# Altium schematic symbol library frznmn_sch.SchLib: 86 symbols (part 1 of 2)
Pins are listed as number, name and electrical type; pins without a type are passive.

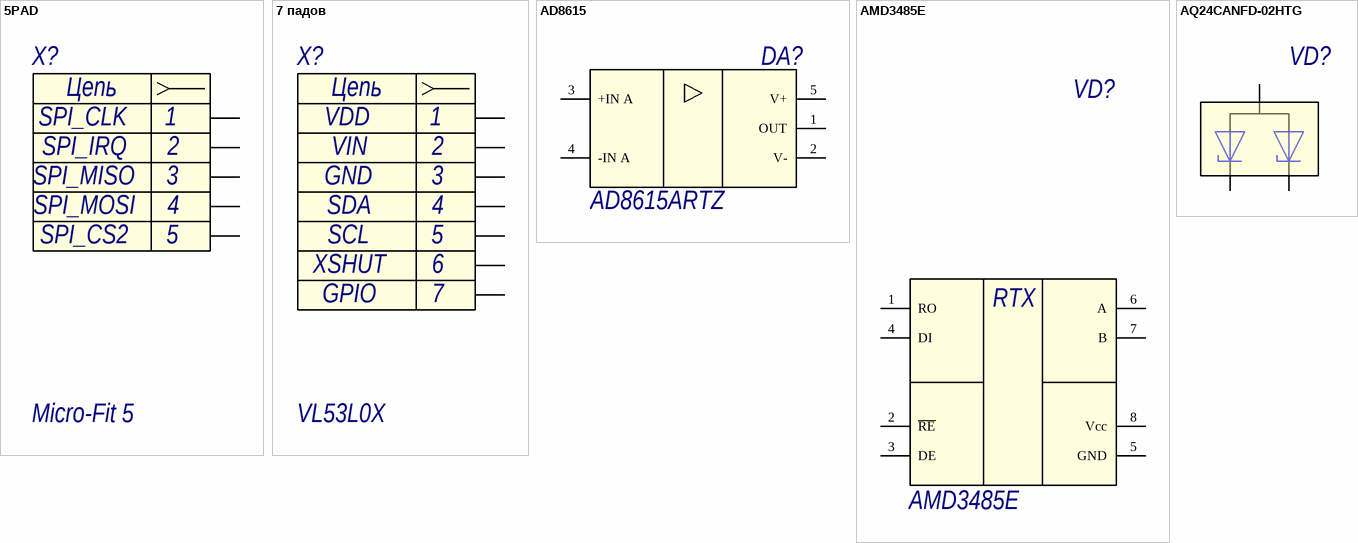
[diagram p0: symbols 5PAD to AQ24CANFD-02HTG]

## 5PAD
designator X?, comment Micro-Fit 5
Разъем - 5 конт. розетка; Contact_1: SPI_CLK; Contact_2: SPI_IRQ; Contact_3: SPI_MISO; Contact_4: SPI_MOSI; Contact_5: SPI_CS2; Name: Micro-Fit 5
footprint 5 PADS (WE-RJ45 LAN Transformer, THT)
pins: 1, 2, 3, 4, 5
text: Цепь

## 7 падов
designator X?, comment VL53L0X
разъем - 7 падов; Contact_1: VDD; Contact_2: VIN; Contact_3: GND; Contact_4: SDA; Contact_5: SCL; Contact_6: XSHUT; Contact_7: GPIO; Name: VL53L0X
footprint 7 pads (Разъем для коммутационной платы модуля датчиков)
pins: 1, 2, 3, 4, 5, 6, 7
text: Цепь

## AD8615
designator DA?, comment AD8615ARTZ
ОУ ,Rail-to-Rail; Noize ,En @1кГц: 10нВ/Гц^1/2; Slew rate: 12В/мкС; Gain Bandwidth,GBP: 24 МГц; Supply Voltage. Vs: 2,7...5,0В; PSRR: 90dB; T (°C) Ambient: -40...+125; Pk-to-Pk Noize ,Enp-p: 2,4 мкВ; Offset Voltage,Vos: 100мкВ; Input Voltage Range: 0...5В; Name: AD8615ARTZ
footprint SOT23-5
pins: 1 OUT, 2 V-, 3 +IN A, 4 -IN A, 5 V+

## AMD3485E
designator VD?
RS-485/UART; Manufacturer: Texas Instruments; Package: SOT23-6; Name: AMD3485E
footprint SOT23-6
footprint SOIC8
pins: 1 RO, 2 ~{RE}, 3 DE, 4 DI, 5 GND, 6 A, 7 B, 8 Vcc
text: RTX

## AQ24CANFD-02HTG
designator VD?  (value not drawn)
Диод сдвоенный; Name: AQ24CANFD-02HTG
footprint SOT23-3 (SOT23, 3-Leads, Body 2,90x2,30mm, Pitch 0,95mm, IPC Medium Density)
pins: 1 A, 2 Com, 3 K

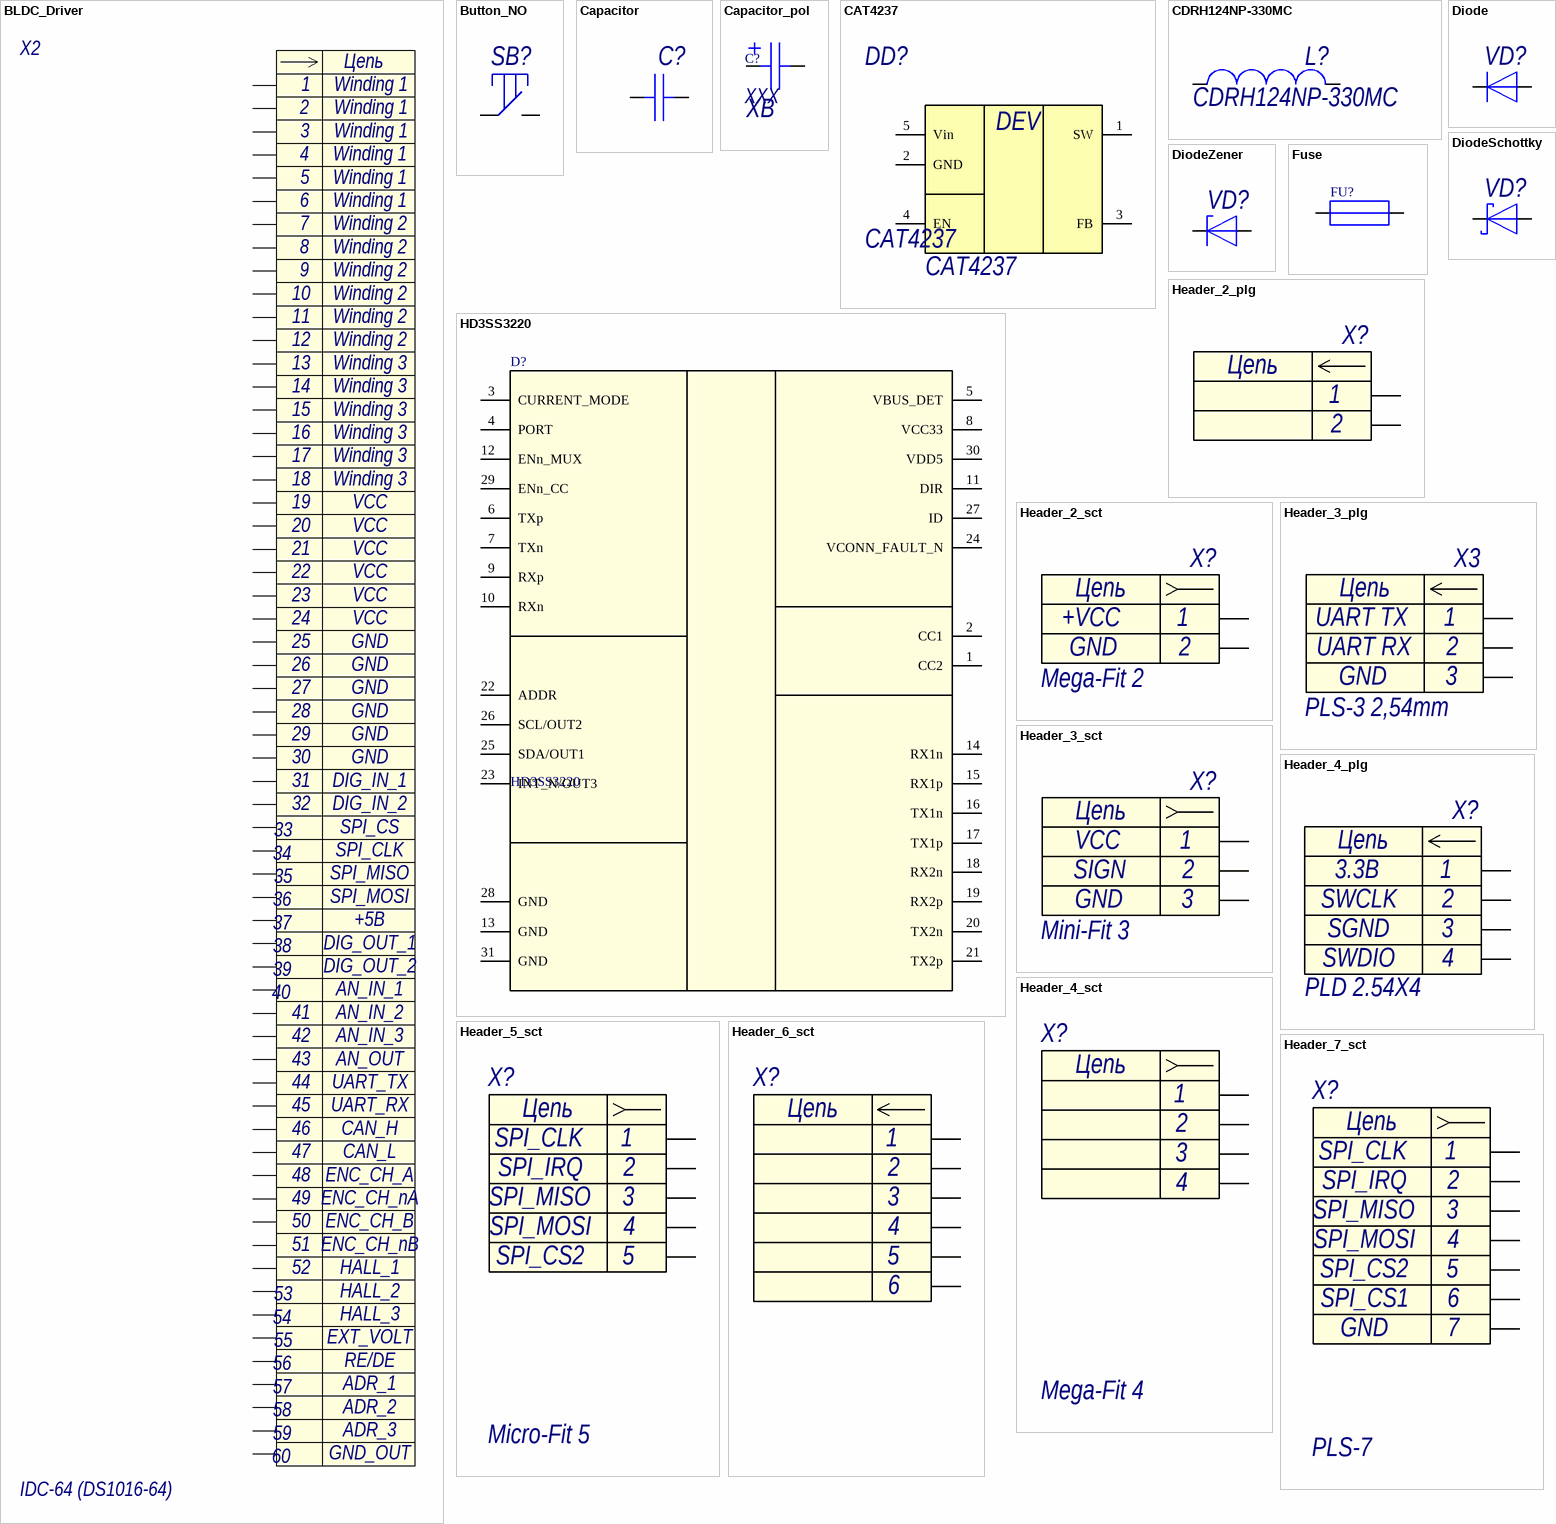
[diagram p1: symbols BLDC_Driver to Header_7_sct]

## BLDC_Driver
designator X2, comment IDC-64 (DS1016-64)
Разъем - 60 конт. розетка; Contact_1: Winding 1; Contact_7: Winding 2; Contact_13: Winding 3; Contact_19: VCC; Contact_25: GND; Contact_31: DIG_IN_1; Contact_32: DIG_IN_2; Contact_33: SPI_CS; Contact_34: SPI_CLK; Contact_35: SPI_MISO; Contact_36: SPI_MOSI; Contact_37: +5В; Contact_38: DIG_OUT_1; Contact_39: DIG_OUT_2; Contact_40: AN_IN_1; Contact_41: AN_IN_2; Contact_42: AN_IN_3; Contact_43: AN_OUT; Contact_44: UART_TX; Contact_45: UART_RX; Contact_46: CAN_H; Contact_47: CAN_L; Contact_48: ENC_CH_A; Contact_49: ENC_CH_nA; Contact_50: ENC_CH_B; Contact_51: ENC_CH_nB; Contact_52: HALL_1; Contact_53: HALL_2; Contact_54: HALL_3; Contact_55: EXT_VOLT; Contact_56: RE/DE; Contact_57: ADR_1; Contact_58: ADR_2; Contact_59: ADR_3; Contact_60: GND_OUT; Contact_2: Winding 1; Contact_3: Winding 1; Contact_4: Winding 1; Contact_5: Winding 1; Contact_6: Winding 1; Contact_8: Winding 2; Contact_9: Winding 2; Contact_10: Winding 2; Name: IDC-64 (DS1016-64); Contact_11: Winding 2; Contact_12: Winding 2; Contact_14: Winding 3; Contact_15: Winding 3; Contact_16: Winding 3; Contact_17: Winding 3; Contact_18: Winding 3; Contact_20: VCC; Contact_21: VCC; Contact_22: VCC; Contact_23: VCC; Contact_24: VCC; Contact_26: GND; Contact_27: GND; Contact_28: GND; Contact_29: GND; Contact_30: GND
footprint BLDC_Driver
pins: 1, 2, 3, 4, 5, 6, 7, 8, 9, 10, 11, 12, 13, 14, 15, 16, 17, 18, 19, 20, 21, 22, 23, 24, 25, 26, 27, 28, 29, 30, 31, 32, 33, 34, 35, 36, 37, 38, 39, 40, 41, 42, 43, 44, 45, 46, 47, 48, 49, 50, 51, 52, 53, 54, 55, 56, 57, 58, 59, 60
text: Цепь

## Button_NO
designator SB?
Кнопка без фиксации нормальноразомкнутая
footprint MULTIMEC 5G (SMD button)
pins: 1, 2

## Capacitor
designator C?
Конденсатор
footprint C0402
footprint C0603_A
footprint C1206_A
footprint C1210_AA - 2.5
pins: 1, 2

## Capacitor_pol
designator C?, comment XXX  Voltage: XВ
Конденсатор поляризованный; Value: XXX
pins: 1, 2

## CAT4237
designator DD?
Драйвер светодиодов; Name: CAT4237
footprint SOT23-5
pins: 1 SW, 2 GND, 3 FB, 4 EN, 5 Vin
text: DEV

## CDRH124NP-330MC
designator L?
Катушка с сердечником 33мкГн 2,7А; I saturation: 2,7; R: 0,097; Value: 33мкГн; Name: CDRH124NP-330MC
footprint CDRH124
pins: 1 3, 2 4

## Diode
designator VD?
Диод
footprint SOD523_A
footprint SOD523_H
pins: 1 K, 2 A

## DiodeSchottky
designator VD?
Диод Шоттки
footprint TO-277A
footprint SOD123_A
pins: 1 K, 2 A

## DiodeZener
designator VD?
Стабилитрон
footprint SMA_A
footprint SMA_H
footprint SOD523_A
footprint SOD523_H
footprint SOT23-2_A
footprint SOT23-2_H
pins: 1 K, 2 A

## Fuse
designator FU?
Предохранитель; Value: XXX
footprint F0805 (Fuse MF-PSMF050X-2)
pins: 1, 2

## HD3SS3220
designator D?
IC DRP PORT CTLR USB-C 30WQFN; Manufacturer: Texas Instruments; PartSymbol: HD3SS3220RNHT; PartNumber: HD3SS3220; Value: HD3SS3220
footprint RNH0030A
pins: 1 CC2, 2 CC1, 3 CURRENT_MODE, 4 PORT, 5 VBUS_DET, 6 TXp, 7 TXn, 8 VCC33, 9 RXp, 10 RXn, 11 DIR, 12 ENn_MUX, 13 GND, 14 RX1n, 15 RX1p, 16 TX1n, 17 TX1p, 18 RX2n, 19 RX2p, 20 TX2n, 21 TX2p, 22 ADDR, 23 INT_N/OUT3, 24 VCONN_FAULT_N, 25 SDA/OUT1, 26 SCL/OUT2, 27 ID, 28 GND, 29 ENn_CC, 30 VDD5, 31 GND

## Header_2_plg
designator X?
Разъем - 2 конт. вилка
footprint PLS-2 2mm
pins: 1, 2
text: Цепь

## Header_2_sct
designator X?, comment Mega-Fit 2
Разъем - 2 конт. розетка; Contact_1: +VCC; Contact_2: GND; Name: Mega-Fit 2
footprint MOLEX_MGF 76825-0002
footprint Micro-fit 2
footprint Click-Mate 2
footprint CWF-2
pins: 1, 2
text: Цепь

## Header_3_plg
designator X3, comment PLS-3 2,54mm
Разъем - 3 конт. вилка; Contact_1: UART TX; Contact_2: UART RX; Contact_3: GND; Name: PLS-3 2,54mm
footprint PLS-3
footprint PBS-3
footprint PLS-3R
pins: 1, 2, 3
text: Цепь

## Header_3_sct
designator X?, comment Mini-Fit 3
Разъем - 3 конт. розетка; Contact_1: VCC; Contact_2: SIGN; Contact_3: GND; Name: Mini-Fit 3
footprint Mini-Fit 3 - Right Angle
footprint MicroFit 3 RA 436500302 (MOLEX-MicroFit 0430450801)
pins: 1, 2, 3
text: Цепь

## Header_4_plg
designator X?, comment PLD 2.54X4
Разъем - 4 конт. вилка; Contact_1: 3.3B; Contact_2: SWCLK; Contact_3: SGND; Contact_4: SWDIO; Name: PLD 2.54X4
footprint PLS-4
footprint MOLEX_picoblade_4R
footprint MW-4M
footprint MW-4MR
footprint USB-A (WE-RJ45 LAN Transformer, THT)
footprint Click-Mate 4 (5054050470)
footprint MTi-3-T PCB (Коммутационная плата IMU)
pins: 1, 2, 3, 4
text: Цепь

## Header_4_sct
designator X?, comment Mega-Fit 4
Разъем - 4 конт. розетка; Name: Mega-Fit 4
footprint MOLEX_MGF 76829-0004
footprint Click-Mate 4 RA
footprint USBB-J1
pins: 1, 2, 3, 4
text: Цепь

## Header_5_sct
designator X?, comment Micro-Fit 5
Разъем - 5 конт. розетка; Contact_1: SPI_CLK; Contact_2: SPI_IRQ; Contact_3: SPI_MISO; Contact_4: SPI_MOSI; Contact_5: SPI_CS2; Name: Micro-Fit 5
footprint Micro-Fit 5 RA (Sigle Row)
footprint Mini-Fit 5 (0460140503)
footprint USB-micro type B (USB3130-30-A)
footprint PLS-5
footprint PLS-5 2mm
footprint Click-Mate 5 (5054050470)
footprint PBS-5 2mm
footprint Mini USB (USB-connector)
pins: 1, 2, 3, 4, 5
text: Цепь

## Header_6_sct
designator X?
Разъем - 6конт. розетка
footprint FCC/FPC 6PIN 1MM
footprint Click-Mate 6 RA
footprint Mini-Fit 6 (0460150809)
footprint Click-Mate 6 (5054050670)
footprint PLS-6 horisontal
footprint PLS-6
footprint Molex_MK 43045-0601
pins: 1, 2, 3, 4, 5, 6
text: Цепь

## Header_7_sct
designator X?, comment PLS-7
Разъем - 6конт. розетка; Contact_1: SPI_CLK; Contact_2: SPI_IRQ; Contact_3: SPI_MISO; Contact_4: SPI_MOSI; Contact_5: SPI_CS2; Contact_6: SPI_CS1; Contact_7: GND; Name: PLS-7
footprint Click-Mate 7 RA
footprint PBS-7
footprint Click-Mate 7 (505405-0770)
pins: 1, 2, 3, 4, 5, 6, 7
text: Цепь

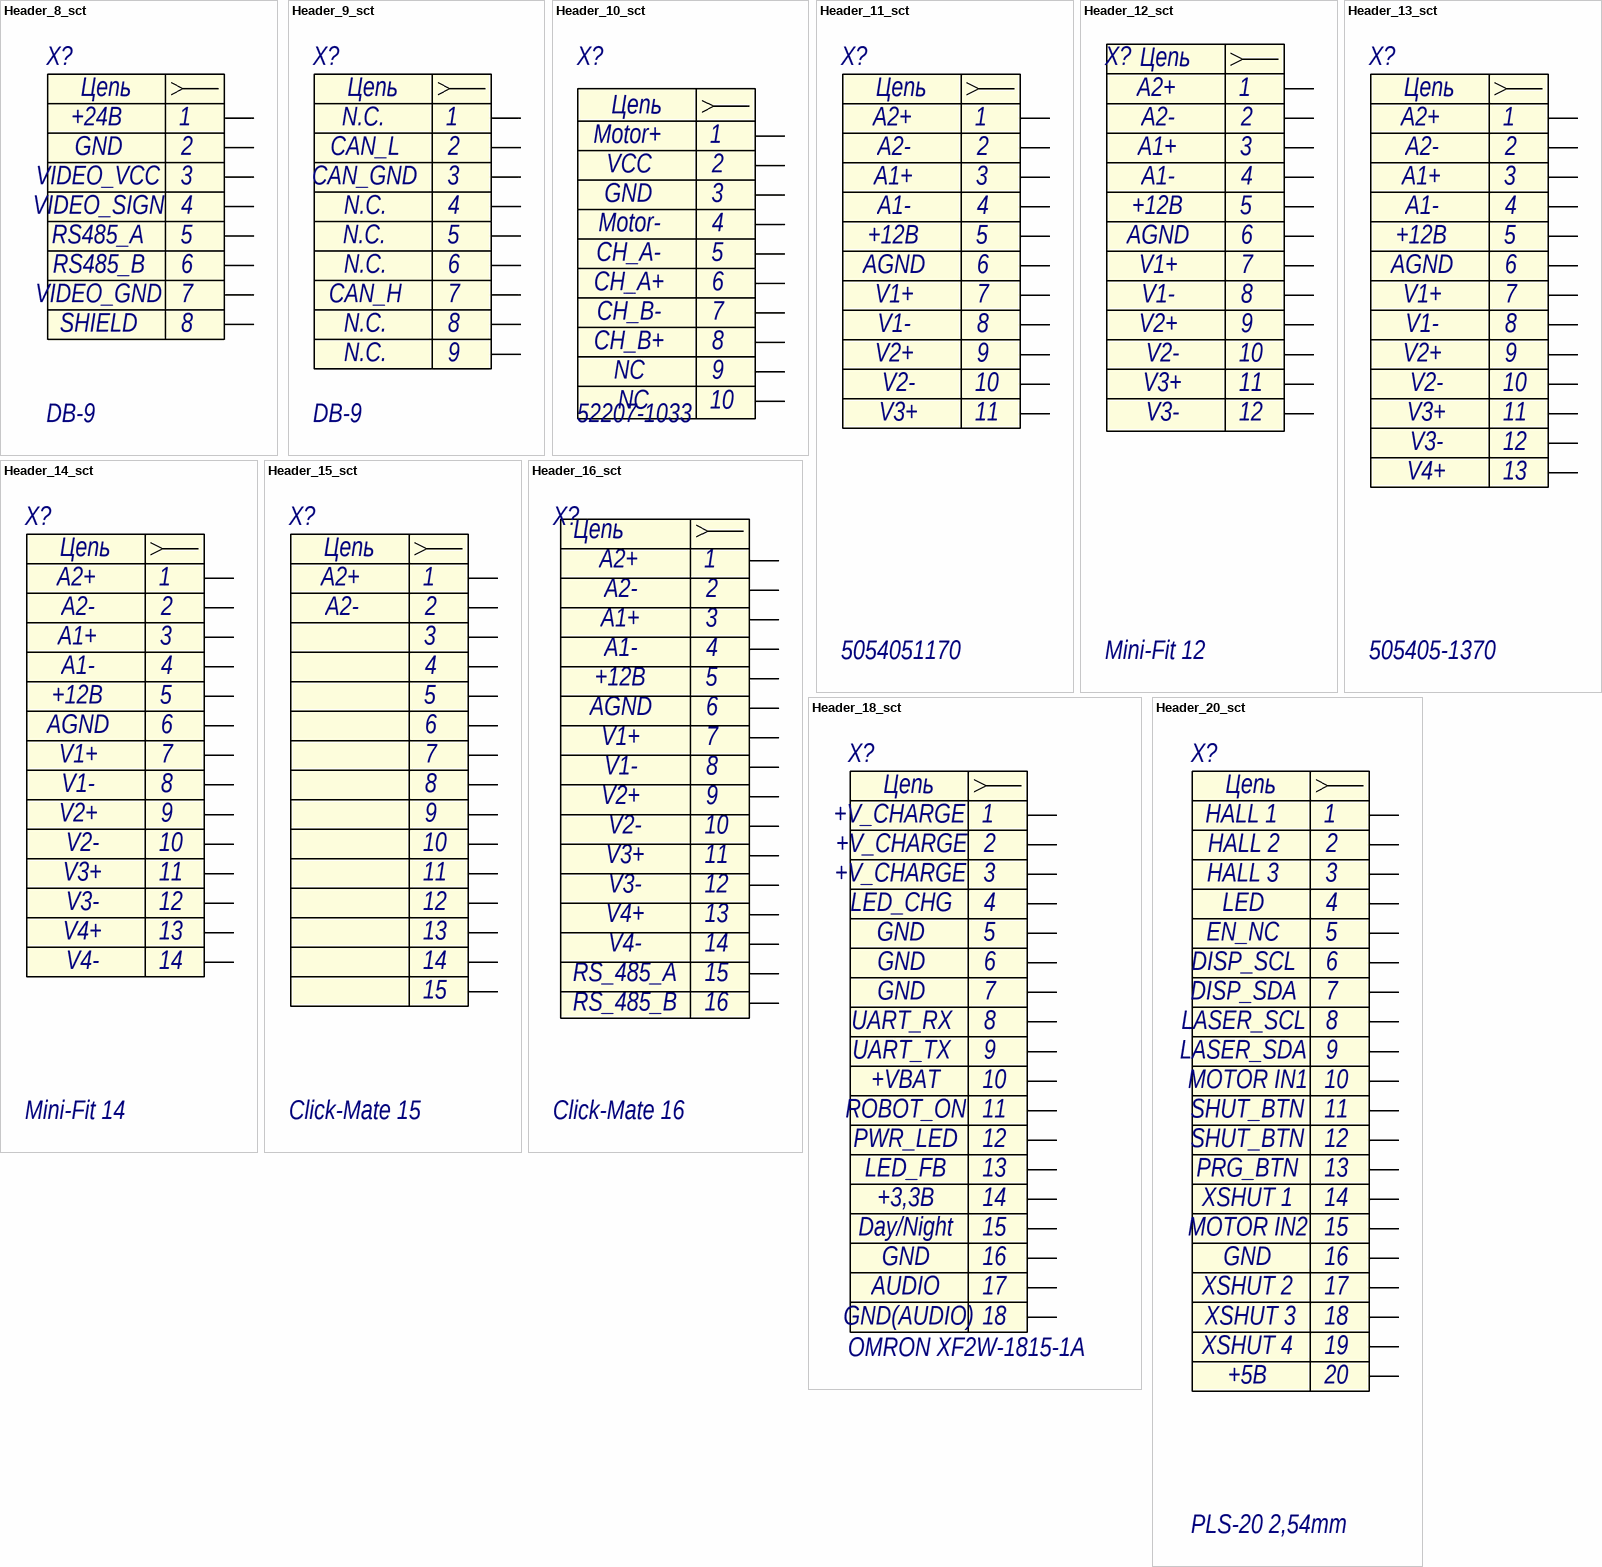
[diagram p2: symbols Header_8_sct to Header_20_sct]

## Header_8_sct
designator X?, comment DB-9
Разъем - 8конт. розетка; Contact_1: +24В; Contact_2: GND; Contact_3: VIDEO_VCC; Contact_4: VIDEO_SIGN; Contact_5: RS485_A; Contact_6: RS485_B; Contact_7: VIDEO_GND; Contact_8: SHIELD; Name: DB-9
footprint PBS-8
footprint MicroFit 8 RA 0430450801 (MOLEX-MicroFit 0430450801)
footprint Click-Mate 8 (5054050870)
footprint PBS-8 - pads only
pins: 1, 2, 3, 4, 5, 6, 7, 8
text: Цепь

## Header_9_sct
designator X?, comment DB-9
Разъем - 9конт. розетка; Contact_1: N.C.; Contact_2: CAN_L; Contact_3: CAN_GND; Contact_7: CAN_H; Contact_4: N.C.; Contact_5: N.C.; Contact_6: N.C.; Contact_8: N.C.; Contact_9: N.C.; Name: DB-9
pins: 1, 2, 3, 4, 5, 6, 7, 8, 9
text: Цепь

## Header_10_sct
designator X?, comment 52207-1033
Разъем - 10 конт. розетка; Contact_1: Motor+; Contact_2: VCC; Contact_3: GND; Contact_4: Motor-; Contact_5: CH_A-; Contact_6: CH_A+; Contact_7: CH_B-; Contact_8: CH_B+; Contact_9: NC; Contact_10: NC; Name: 52207-1033
footprint 52207-1033 (Шлейф под моторы)
footprint PBS2-10
footprint PBS2-10S
footprint IDC-10MR
footprint Mini-Fit 10 - Right Angle
footprint Click-Mate_10 RA
footprint 52465-1071
footprint 53307-1071
footprint Click-Mate 10 (505405-1070)
footprint IDC-10
footprint C-6123738
pins: 1, 2, 3, 4, 5, 6, 7, 8, 9, 10
text: Цепь

## Header_11_sct
designator X?, comment 5054051170
Разъем - 11 конт. розетка; Contact_1: A2+; Contact_2: A2-; Contact_3: A1+; Contact_4: A1-; Contact_5: +12В; Contact_6: AGND; Contact_7: V1+; Contact_8: V1-; Contact_9: V2+; Contact_10: V2-; Contact_11: V3+; Name: 5054051170
footprint Click-Mate 11 (505405-1170)
pins: 1, 2, 3, 4, 5, 6, 7, 8, 9, 10, 11
text: Цепь

## Header_12_sct
designator X?, comment Mini-Fit 12
Разъем - 12 конт. розетка; Contact_1: A2+; Contact_2: A2-; Contact_3: A1+; Contact_4: A1-; Contact_5: +12В; Contact_6: AGND; Contact_7: V1+; Contact_8: V1-; Contact_9: V2+; Contact_10: V2-; Contact_11: V3+; Contact_12: V3-; Name: Mini-Fit 12
footprint Mini-Fit 12 - Right Angle
footprint Click-Mate_12 RA
footprint 12 pads (WE-RJ45 LAN Transformer, THT)
pins: 1, 2, 3, 4, 5, 6, 7, 8, 9, 10, 11, 12
text: Цепь

## Header_13_sct
designator X?, comment 505405-1370
Разъем - 13 конт. розетка; Contact_1: A2+; Contact_2: A2-; Contact_3: A1+; Contact_4: A1-; Contact_5: +12В; Contact_6: AGND; Contact_7: V1+; Contact_8: V1-; Contact_9: V2+; Contact_10: V2-; Contact_11: V3+; Contact_12: V3-; Contact_13: V4+; Name: 505405-1370
footprint Click-Mate 13 (505405-1370)
pins: 1, 2, 3, 4, 5, 6, 7, 8, 9, 10, 11, 12, 13
text: Цепь

## Header_14_sct
designator X?, comment Mini-Fit 14
Разъем - 14 конт. розетка; Contact_1: A2+; Contact_2: A2-; Contact_3: A1+; Contact_4: A1-; Contact_5: +12В; Contact_6: AGND; Contact_7: V1+; Contact_8: V1-; Contact_9: V2+; Contact_10: V2-; Contact_11: V3+; Contact_12: V3-; Contact_13: V4+; Contact_14: V4-; Name: Mini-Fit 14
footprint Mini-Fit 14 - Right Angle
footprint Click-Mate_14 RA
footprint Mini-Fit 14 (0460151409)
pins: 1, 2, 3, 4, 5, 6, 7, 8, 9, 10, 11, 12, 13, 14
text: Цепь

## Header_15_sct
designator X?, comment Click-Mate 15
Разъем - 15 конт. розетка; Contact_1: A2+; Contact_2: A2-; Name: Click-Mate 15
footprint Click-Mate 15 RA
footprint FFC/FPC Connector, 1.00mm  15 Circuits (526101533)
pins: 1, 2, 3, 4, 5, 6, 7, 8, 9, 10, 11, 12, 13, 14, 15
text: Цепь

## Header_16_sct
designator X?, comment Click-Mate 16
Разъем - 16 конт. розетка; Contact_1: A2+; Contact_2: A2-; Contact_3: A1+; Contact_4: A1-; Contact_5: +12В; Contact_6: AGND; Contact_7: V1+; Contact_8: V1-; Contact_9: V2+; Contact_10: V2-; Contact_11: V3+; Contact_12: V3-; Contact_13: V4+; Contact_14: V4-; Contact_15: RS_485_A; Contact_16: RS_485_B; Name: Click-Mate 16
footprint Click-Mate_16 RA
footprint Mini-Fit 16 - Right Angle
pins: 1, 2, 3, 4, 5, 6, 7, 8, 9, 10, 11, 12, 13, 14, 15, 16
text: Цепь

## Header_18_sct
designator X?, comment OMRON XF2W-1815-1A
Разъем - 18 конт. розетка; Contact_1: +V_CHARGE; Contact_4: LED_CHG; Contact_5: GND; Contact_8: UART_RX; Contact_9: UART_TX; Contact_10: +VBAT; Contact_11: ROBOT_ON; Contact_12: PWR_LED; Contact_13: LED_FB; Contact_14: +3,3В; Contact_15: Day/Night; Contact_17: AUDIO; Contact_18: GND(AUDIO); Contact_2: +V_CHARGE; Contact_3: +V_CHARGE; Contact_6: GND; Contact_7: GND; Name: OMRON XF2W-1815-1A; Contact_16: GND
footprint OMRON XF2W-1815-1A (Шлейф на люстру)
footprint Click-Mate_18 RA
footprint MicroFit 18 RA 43045-1801 (MOLEX-MicroFit 43045-1801)
pins: 1, 2, 3, 4, 5, 6, 7, 8, 9, 10, 11, 12, 13, 14, 15, 16, 17, 18
text: Цепь

## Header_20_sct
designator X?, comment PLS-20 2,54mm
Разъем - 20 конт. розетка; Contact_1: HALL 1; Contact_2: HALL 2; Contact_3: HALL 3; Contact_4: LED; Contact_5: EN_NC; Contact_6: DISP_SCL; Contact_7: DISP_SDA; Contact_8: LASER_SCL; Contact_9: LASER_SDA; Contact_10: MOTOR IN1; Contact_11: SHUT_BTN; Contact_13: PRG_BTN; Contact_14: XSHUT 1; Contact_19: XSHUT 4; Contact_15: MOTOR IN2; Contact_16: GND; Contact_17: XSHUT 2; Contact_18: XSHUT 3; Contact_20: +5В; Name: PLS-20 2,54mm; Contact_12: SHUT_BTN
footprint Mini-Fit 20
footprint Click-Mate_20 RA
footprint IDC-20
footprint PLS-20
footprint PBS-20
pins: 1, 2, 3, 4, 5, 6, 7, 8, 9, 10, 11, 12, 13, 14, 15, 16, 17, 18, 19, 20
text: Цепь

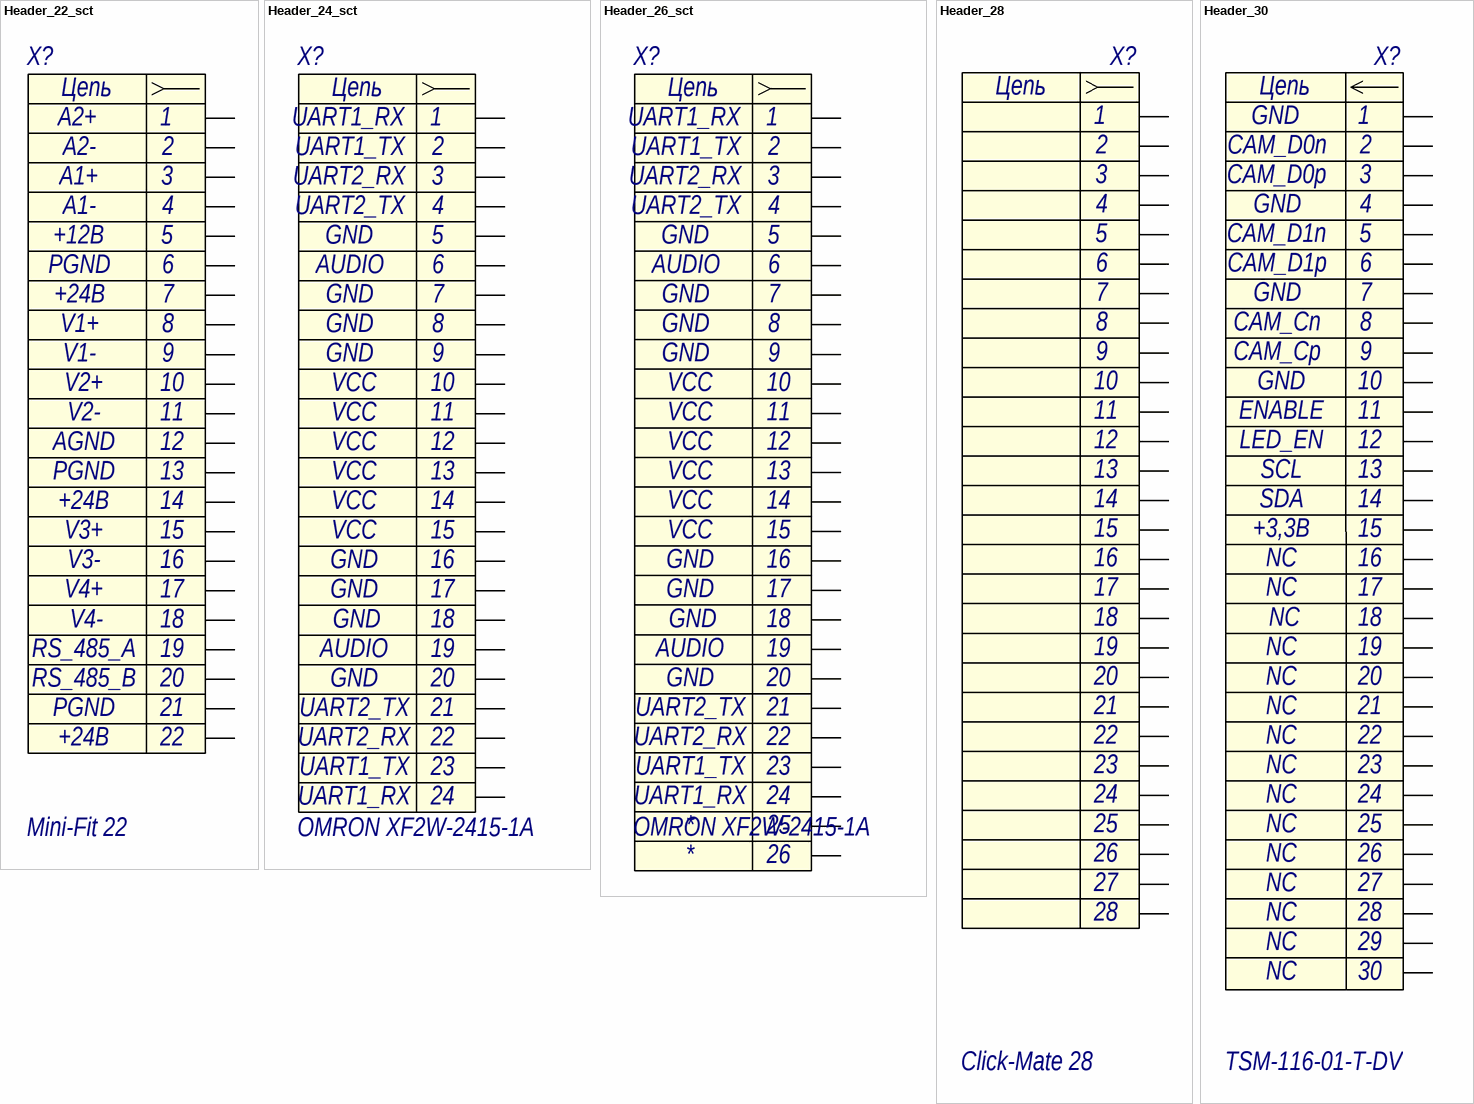
[diagram p3: symbols Header_22_sct to Header_30]

## Header_22_sct
designator X?, comment Mini-Fit 22
Разъем - 24 конт. розетка; Contact_1: A2+; Contact_2: A2-; Contact_3: A1+; Contact_4: A1-; Contact_5: +12В; Contact_6: PGND; Contact_7: +24В; Contact_8: V1+; Contact_9: V1-; Contact_10: V2+; Contact_11: V2-; Contact_12: AGND; Contact_19: RS_485_A; Contact_15: V3+; Contact_16: V3-; Contact_17: V4+; Contact_18: V4-; Contact_20: RS_485_B; Name: Mini-Fit 22; Contact_13: PGND; Contact_14: +24В; Contact_21: PGND; Contact_22: +24В
footprint Mini-Fit 22 - Right Angle
pins: 1, 2, 3, 4, 5, 6, 7, 8, 9, 10, 11, 12, 13, 14, 15, 16, 17, 18, 19, 20, 21, 22
text: Цепь

## Header_24_sct
designator X?, comment OMRON XF2W-2415-1A
Разъем - 24 конт. розетка; Contact_1: UART1_RX; Contact_2: UART1_TX; Contact_3: UART2_RX; Contact_4: UART2_TX; Contact_5: GND; Contact_6: AUDIO; Contact_10: VCC; Contact_7: GND; Contact_8: GND; Contact_9: GND; Name: OMRON XF2W-2415-1A; Contact_11: VCC; Contact_12: VCC; Contact_13: VCC; Contact_14: VCC; Contact_19: AUDIO; Contact_15: VCC; Contact_16: GND; Contact_17: GND; Contact_18: GND; Contact_20: GND; Contact_21: UART2_TX; Contact_22: UART2_RX; Contact_23: UART1_TX; Contact_24: UART1_RX
footprint OMRON XF2W-2415-1A (Шлейф на ГОЛЕМ)
footprint Mini-Fit 24
pins: 1, 2, 3, 4, 5, 6, 7, 8, 9, 10, 11, 12, 13, 14, 15, 16, 17, 18, 19, 20, 21, 22, 23, 24
text: Цепь

## Header_26_sct
designator X?, comment OMRON XF2W-2415-1A
Разъем - 26 конт. розетка; Contact_1: UART1_RX; Contact_2: UART1_TX; Contact_3: UART2_RX; Contact_4: UART2_TX; Contact_5: GND; Contact_6: AUDIO; Contact_10: VCC; Contact_7: GND; Contact_8: GND; Contact_9: GND; Name: OMRON XF2W-2415-1A; Contact_11: VCC; Contact_12: VCC; Contact_13: VCC; Contact_14: VCC; Contact_19: AUDIO; Contact_15: VCC; Contact_16: GND; Contact_17: GND; Contact_18: GND; Contact_20: GND; Contact_21: UART2_TX; Contact_22: UART2_RX; Contact_23: UART1_TX; Contact_24: UART1_RX; Contact_25: *; Contact_26: *
footprint Click-Mate_26
pins: 1, 2, 3, 4, 5, 6, 7, 8, 9, 10, 11, 12, 13, 14, 15, 16, 17, 18, 19, 20, 21, 22, 23, 24, 25, 26
text: Цепь

## Header_28
designator X?, comment Click-Mate 28
Разъем - 28 конт. розетка; Name: Click-Mate 28
footprint Click-Mate_28
pins: 1, 2, 3, 4, 5, 6, 7, 8, 9, 10, 11, 12, 13, 14, 15, 16, 17, 18, 19, 20, 21, 22, 23, 24, 25, 26, 27, 28
text: Цепь

## Header_30
designator X?, comment TSM-116-01-T-DV
Разъем - 30 конт. розетка; Contact_1: GND; Contact_2: CAM_D0n; Contact_3: CAM_D0p; Contact_5: CAM_D1n; Contact_6: CAM_D1p; Contact_8: CAM_Cn; Contact_9: CAM_Cp; Contact_11: ENABLE; Contact_12: LED_EN; Contact_13: SCL; Contact_14: SDA; Contact_19: NC; Contact_15: +3,3В; Contact_4: GND; Contact_7: GND; Contact_10: GND; Name: TSM-116-01-T-DV; Contact_16: NC; Contact_17: NC; Contact_18: NC; Contact_20: NC; Contact_21: NC; Contact_22: NC; Contact_23: NC; Contact_25: NC; Contact_24: NC; Contact_26: NC; Contact_27: NC; Contact_28: NC; Contact_29: NC; Contact_30: NC
footprint TSM-116-01-T-DV
pins: 1, 2, 3, 4, 5, 6, 7, 8, 9, 10, 11, 12, 13, 14, 15, 16, 17, 18, 19, 20, 21, 22, 23, 24, 25, 26, 27, 28, 29, 30
text: Цепь

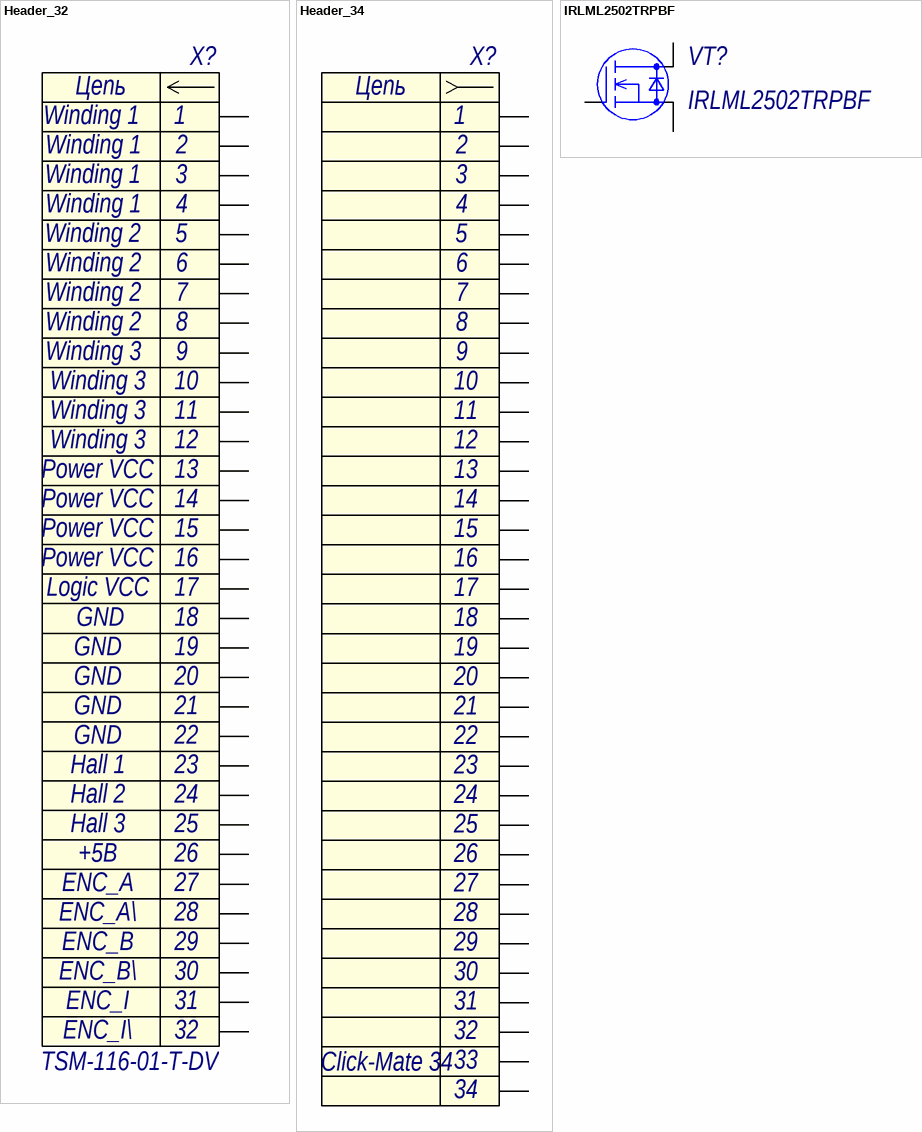
[diagram p4: symbols Header_32 to IRLML2502TRPBF]

## Header_32
designator X?, comment TSM-116-01-T-DV
Разъем - 32 конт. розетка; Contact_1: Winding 1; Contact_5: Winding 2; Contact_9: Winding 3; Contact_13: Power VCC; Contact_19: GND; Contact_17: Logic VCC; Contact_23: Hall 1; Contact_25: Hall 3; Contact_24: Hall 2; Contact_26: +5В; Contact_27: ENC_A; Contact_28: ENC_A\; Contact_29: ENC_B; Contact_30: ENC_B\; Contact_31: ENC_I; Contact_32: ENC_I\; Contact_2: Winding 1; Contact_3: Winding 1; Contact_4: Winding 1; Contact_6: Winding 2; Contact_7: Winding 2; Contact_8: Winding 2; Contact_10: Winding 3; Name: TSM-116-01-T-DV; Contact_11: Winding 3; Contact_12: Winding 3; Contact_14: Power VCC; Contact_15: Power VCC; Contact_16: Power VCC; Contact_18: GND; Contact_20: GND; Contact_21: GND; Contact_22: GND
footprint TSM-116-01-T-DV
pins: 1, 2, 3, 4, 5, 6, 7, 8, 9, 10, 11, 12, 13, 14, 15, 16, 17, 18, 19, 20, 21, 22, 23, 24, 25, 26, 27, 28, 29, 30, 31, 32
text: Цепь

## Header_34
designator X?, comment Сlick-Mate 34
Разъем - 34 конт. розетка; Name: Сlick-Mate 34
footprint Click-Mate_34
pins: 1, 2, 3, 4, 5, 6, 7, 8, 9, 10, 11, 12, 13, 14, 15, 16, 17, 18, 19, 20, 21, 22, 23, 24, 25, 26, 27, 28, 29, 30, 31, 32, 33, 34
text: Цепь

## IRLML2502TRPBF
designator VT?
N-MOSFET 20В 4,5А; Manufacturer: International Rectifier; Name: IRLML2502TRPBF
footprint SOT23-3 (SOT23, 3-Leads, Body 2,90x2,30mm, Pitch 0,95mm, IPC Medium Density)
pins: 1 G, 2 S, 3 D

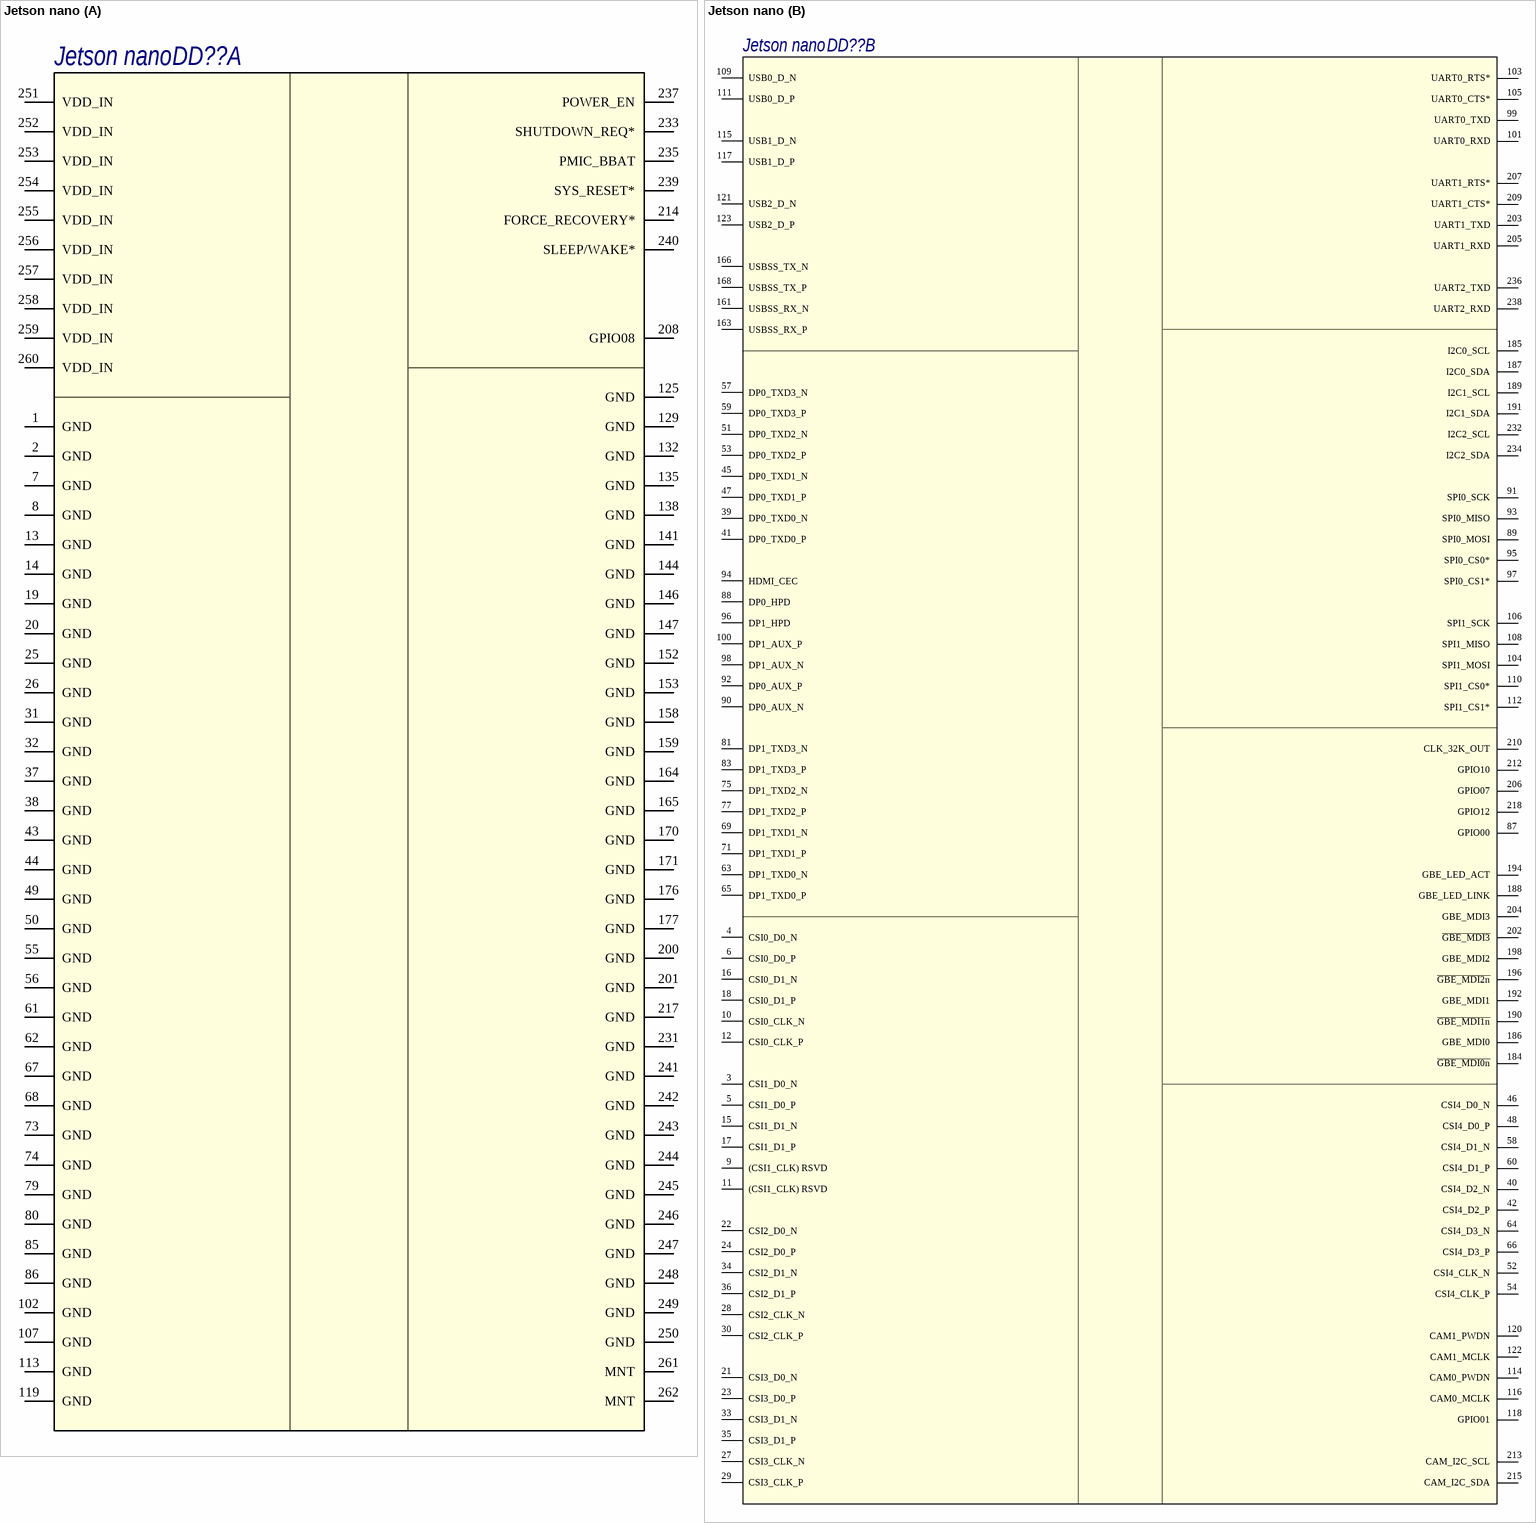
[diagram p5: symbol Jetson nano]

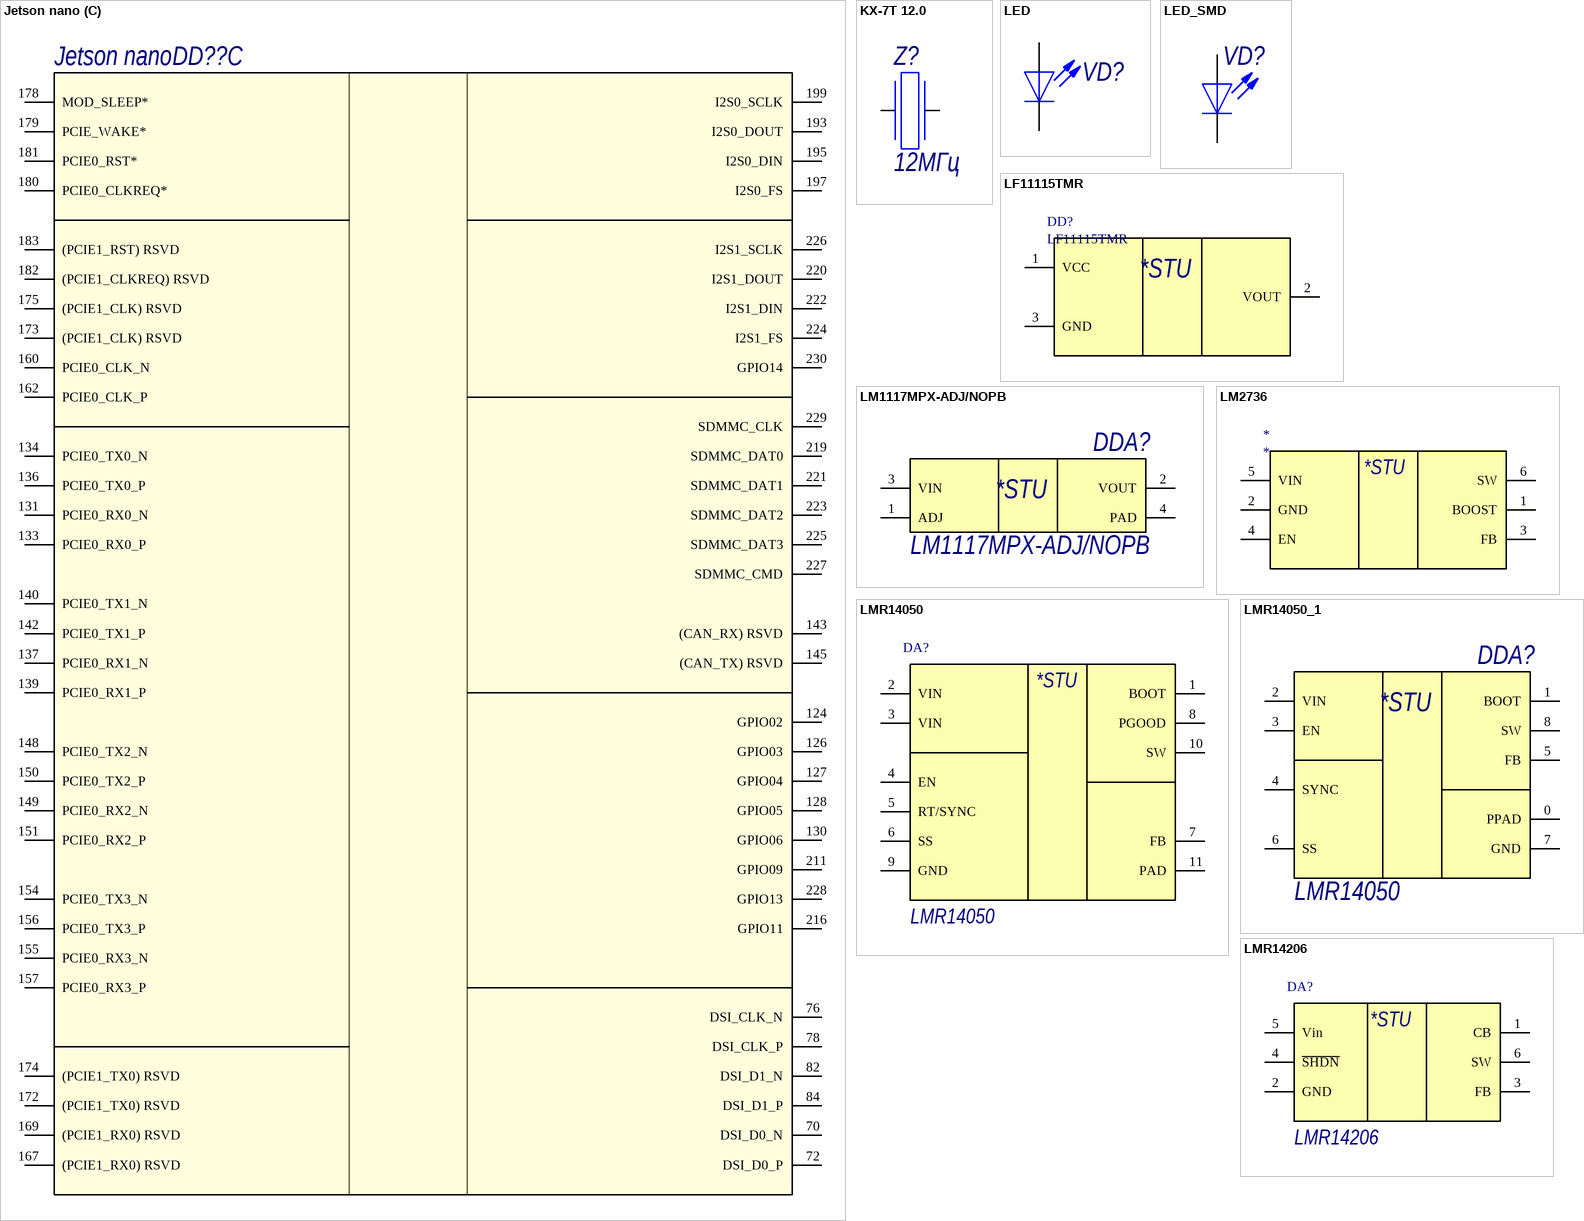
[diagram p6: symbols Jetson nano to LMR14206]

## Jetson nano
designator DD??
Одноплатный компьютер; Manufacter: NVIDIA; Name: Jetson nano
footprint jetson-nano-connector
part A pins: 1 GND, 2 GND, 7 GND, 8 GND, 13 GND, 14 GND, 19 GND, 20 GND, 25 GND, 26 GND, 31 GND, 32 GND, 37 GND, 38 GND, 43 GND, 44 GND, 49 GND, 50 GND, 55 GND, 56 GND, 61 GND, 62 GND, 67 GND, 68 GND, 73 GND, 74 GND, 79 GND, 80 GND, 85 GND, 86 GND, 102 GND, 107 GND, 113 GND, 119 GND, 125 GND, 129 GND, 132 GND, 135 GND, 138 GND, 141 GND, 144 GND, 146 GND, 147 GND, 152 GND, 153 GND, 158 GND, 159 GND, 164 GND, 165 GND, 170 GND, 171 GND, 176 GND, 177 GND, 200 GND, 201 GND, 208 GPIO08, 214 FORCE_RECOVERY*, 217 GND, 231 GND, 233 SHUTDOWN_REQ*, 235 PMIC_BBAT, 237 POWER_EN, 239 SYS_RESET*, 240 SLEEP/WAKE*, 241 GND, 242 GND, 243 GND, 244 GND, 245 GND, 246 GND, 247 GND, 248 GND, 249 GND, 250 GND, 251 VDD_IN, 252 VDD_IN, 253 VDD_IN, 254 VDD_IN, 255 VDD_IN, 256 VDD_IN, 257 VDD_IN, 258 VDD_IN, 259 VDD_IN, 260 VDD_IN, 261 MNT, 262 MNT
part B pins: 3 CSI1_D0_N, 4 CSI0_D0_N, 5 CSI1_D0_P, 6 CSI0_D0_P, 9 (CSI1_CLK) RSVD, 10 CSI0_CLK_N, 11 (CSI1_CLK) RSVD, 12 CSI0_CLK_P, 15 CSI1_D1_N, 16 CSI0_D1_N, 17 CSI1_D1_P, 18 CSI0_D1_P, 21 CSI3_D0_N, 22 CSI2_D0_N, 23 CSI3_D0_P, 24 CSI2_D0_P, 27 CSI3_CLK_N, 28 CSI2_CLK_N, 29 CSI3_CLK_P, 30 CSI2_CLK_P, 33 CSI3_D1_N, 34 CSI2_D1_N, 35 CSI3_D1_P, 36 CSI2_D1_P, 39 DP0_TXD0_N, 40 CSI4_D2_N, 41 DP0_TXD0_P, 42 CSI4_D2_P, 45 DP0_TXD1_N, 46 CSI4_D0_N, 47 DP0_TXD1_P, 48 CSI4_D0_P, 51 DP0_TXD2_N, 52 CSI4_CLK_N, 53 DP0_TXD2_P, 54 CSI4_CLK_P, 57 DP0_TXD3_N, 58 CSI4_D1_N, 59 DP0_TXD3_P, 60 CSI4_D1_P, 63 DP1_TXD0_N, 64 CSI4_D3_N, 65 DP1_TXD0_P, 66 CSI4_D3_P, 69 DP1_TXD1_N, 71 DP1_TXD1_P, 75 DP1_TXD2_N, 77 DP1_TXD2_P, 81 DP1_TXD3_N, 83 DP1_TXD3_P, 87 GPIO00, 88 DP0_HPD, 89 SPI0_MOSI, 90 DP0_AUX_N, 91 SPI0_SCK, 92 DP0_AUX_P, 93 SPI0_MISO, 94 HDMI_CEC, 95 SPI0_CS0*, 96 DP1_HPD, 97 SPI0_CS1*, 98 DP1_AUX_N, 99 UART0_TXD, 100 DP1_AUX_P, 101 UART0_RXD, 103 UART0_RTS*, 104 SPI1_MOSI, 105 UART0_CTS*, 106 SPI1_SCK, 108 SPI1_MISO, 109 USB0_D_N, 110 SPI1_CS0*, 111 USB0_D_P, 112 SPI1_CS1*, 114 CAM0_PWDN, 115 USB1_D_N, 116 CAM0_MCLK, 117 USB1_D_P, 118 GPIO01, 120 CAM1_PWDN, 121 USB2_D_N, 122 CAM1_MCLK, 123 USB2_D_P, 161 USBSS_RX_N, 163 USBSS_RX_P, 166 USBSS_TX_N, 168 USBSS_TX_P, 184 ~{GBE_MDI0n}, 185 I2C0_SCL, 186 GBE_MDI0, 187 I2C0_SDA, 188 GBE_LED_LINK, 189 I2C1_SCL, 190 ~{GBE_MDI1n}, 191 I2C1_SDA, 192 GBE_MDI1, 194 GBE_LED_ACT, 196 ~{GBE_MDI2n}, 198 GBE_MDI2, 202 ~{GBE_MDI3}, 203 UART1_TXD, 204 GBE_MDI3, 205 UART1_RXD, 206 GPIO07, 207 UART1_RTS*, 209 UART1_CTS*, 210 CLK_32K_OUT, 212 GPIO10, 213 CAM_I2C_SCL, 215 CAM_I2C_SDA, 218 GPIO12, 232 I2C2_SCL, 234 I2C2_SDA, 236 UART2_TXD, 238 UART2_RXD
part C pins: 70 DSI_D0_N, 72 DSI_D0_P, 76 DSI_CLK_N, 78 DSI_CLK_P, 82 DSI_D1_N, 84 DSI_D1_P, 124 GPIO02, 126 GPIO03, 127 GPIO04, 128 GPIO05, 130 GPIO06, 131 PCIE0_RX0_N, 133 PCIE0_RX0_P, 134 PCIE0_TX0_N, 136 PCIE0_TX0_P, 137 PCIE0_RX1_N, 139 PCIE0_RX1_P, 140 PCIE0_TX1_N, 142 PCIE0_TX1_P, 143 (CAN_RX) RSVD, 145 (CAN_TX) RSVD, 148 PCIE0_TX2_N, 149 PCIE0_RX2_N, 150 PCIE0_TX2_P, 151 PCIE0_RX2_P, 154 PCIE0_TX3_N, 155 PCIE0_RX3_N, 156 PCIE0_TX3_P, 157 PCIE0_RX3_P, 160 PCIE0_CLK_N, 162 PCIE0_CLK_P, 167 (PCIE1_RX0) RSVD, 169 (PCIE1_RX0) RSVD, 172 (PCIE1_TX0) RSVD, 173 (PCIE1_CLK) RSVD, 174 (PCIE1_TX0) RSVD, 175 (PCIE1_CLK) RSVD, 178 MOD_SLEEP*, 179 PCIE_WAKE*, 180 PCIE0_CLKREQ*, 181 PCIE0_RST*, 182 (PCIE1_CLKREQ) RSVD, 183 (PCIE1_RST) RSVD, 193 I2S0_DOUT, 195 I2S0_DIN, 197 I2S0_FS, 199 I2S0_SCLK, 211 GPIO09, 216 GPIO11, 219 SDMMC_DAT0, 220 I2S1_DOUT, 221 SDMMC_DAT1, 222 I2S1_DIN, 223 SDMMC_DAT2, 224 I2S1_FS, 225 SDMMC_DAT3, 226 I2S1_SCLK, 227 SDMMC_CMD, 228 GPIO13, 229 SDMMC_CLK, 230 GPIO14

## KX-7T 12.0
designator Z?, comment 12МГц
Кварцевый резонатор; Manufacturer: Geyer Electronics; Name: KX-7T 12.0; Tolerance: 30ppm; Temperature tolerance: 100ppm; Load capacity: 12пФ; Max. aging frequency at first year: +-2ppm; Temperature range: -40...85C; Value: 12МГц; Package: SMD3,2x2,5x0,8
footprint QSMD3.2x2.5
pins: 1, 2

## LED
designator VD?
Светодиод красный SMD; Manufacturer: Para Light; Name: L-C191ECT; Forward voltage; 25мА: 2,15В; Max. forward current (continuous): 25мА; Package: 0603
footprint 0603_LED_(green)
footprint 0603_LED_(red)
footprint LED (5mm horisontal)
pins: 1 K, 2 A

## LED_SMD
designator VD?
Светодиод SMD
footprint LED0603 (Chip led, size 0603)
pins: 1 K, 2 A

## LF11115TMR
designator DD?
Датчик холла; Manufacturer: Littelfuse; Name: LF11115TMR
footprint SOT23-3 (SOT23, 3-Leads, Body 2,90x2,30mm, Pitch 0,95mm, IPC Medium Density)
pins: 1 VCC, 2 VOUT, 3 GND
text: *STU

## LM1117MPX-ADJ/NOPB
designator DDA?
Manufacter: Texas Instruments; Name: LM1117MPX-ADJ/NOPB
footprint SOT-223
pins: 1 ADJ, 2 VOUT, 3 VIN, 4 PAD
text: *STU

## LM2736
designator *
DC/DC, 0,75A
pins: 1 BOOST, 2 GND, 3 FB, 4 EN, 5 VIN, 6 SW
text: *STU

## LMR14050
designator DA?
DC/DC, 5A; Name: LMR14050
footprint WSON-10 (PSON, 8-Leads, Body 4x4mm, Pitch 0.8mm, NSC Recommended)
pins: 1 BOOT, 2 VIN, 3 VIN, 4 EN, 5 RT/SYNC, 6 SS, 7 FB, 8 PGOOD, 9 GND, 10 SW, 11 PAD
text: *STU

## LMR14050_1
designator DDA?, comment LMR14050
Понижающий импульсный DC-DC преобразователь. / V_INmax = 40В / I_OUTmax = 5А; Manufacter: Texas Instruments; Name: LMR14050
footprint HSOIC8 (SOIC 8 with power pad)
pins: 0 PPAD, 1 BOOT, 2 VIN, 3 EN, 4 SYNC, 5 FB, 6 SS, 7 GND, 8 SW
text: *STU

## LMR14206
designator DA?
DC/DC, 5A; Name: LMR14206
footprint SOT23-6
pins: 1 CB, 2 GND, 3 FB, 4 ~{SHDN}, 5 Vin, 6 SW
text: *STU

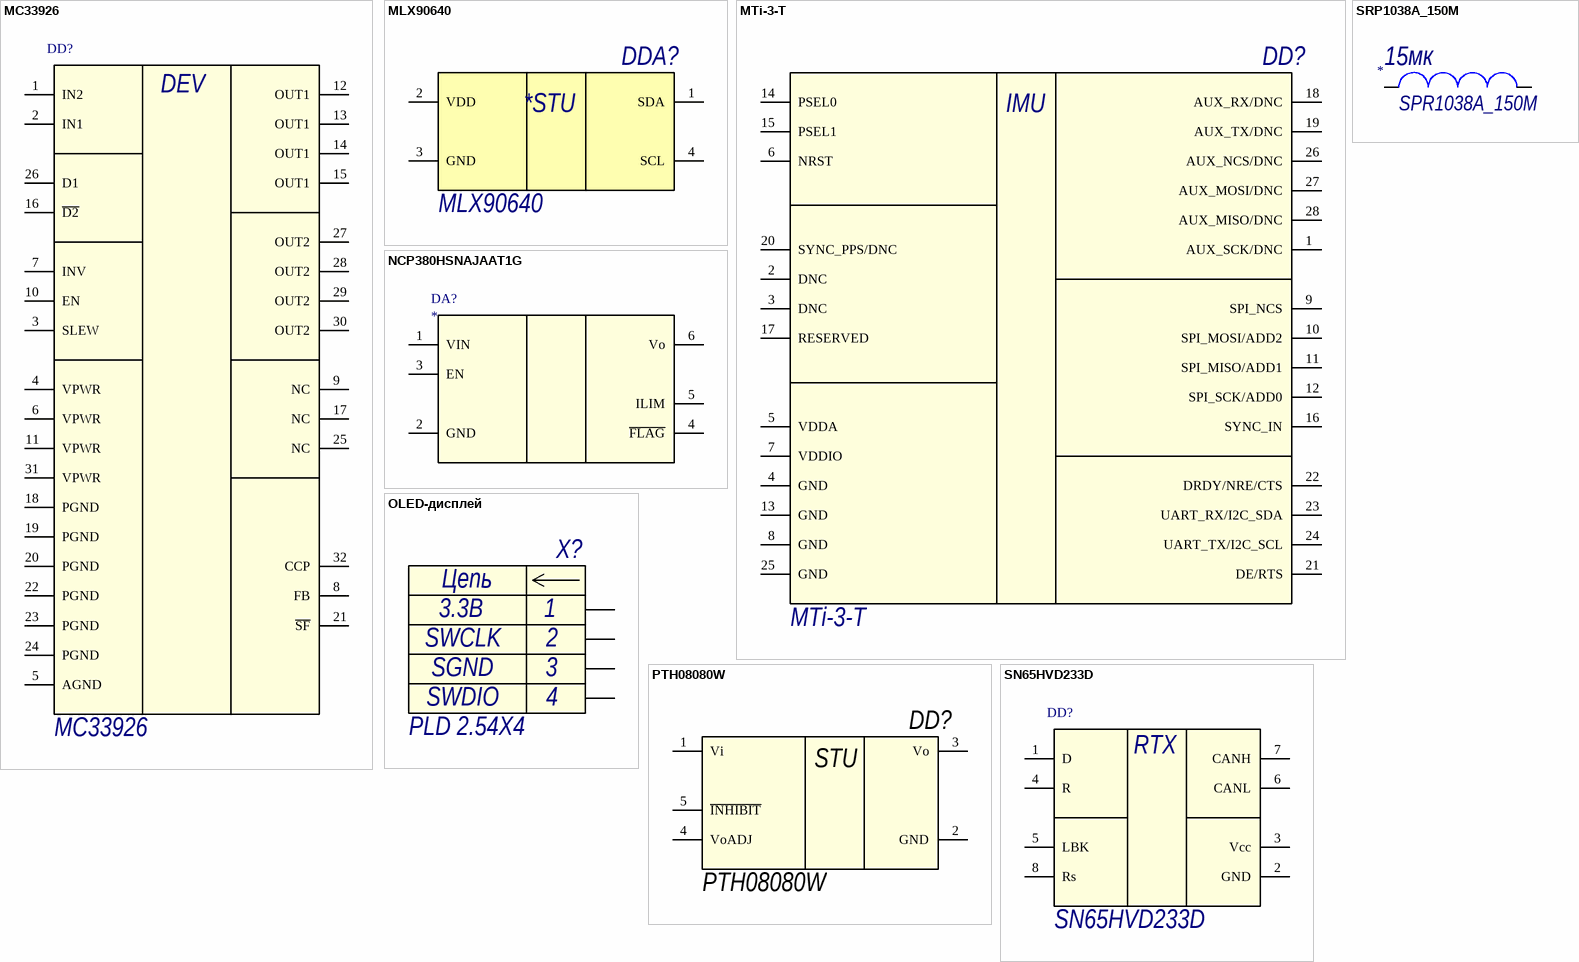
[diagram p7: symbols MC33926 to SRP1038A_150M]

## MC33926
designator DD?
Н-мост 5А; Name: MC33926
footprint PQFN32
pins: 1 IN2, 2 IN1, 3 SLEW, 4 VPWR, 5 AGND, 6 VPWR, 7 INV, 8 FB, 9 NC, 10 EN, 11 VPWR, 12 OUT1, 13 OUT1, 14 OUT1, 15 OUT1, 16 ~{D2}, 17 NC, 18 PGND, 19 PGND, 20 PGND, 21 ~{SF}, 22 PGND, 23 PGND, 24 PGND, 25 NC, 26 D1, 27 OUT2, 28 OUT2, 29 OUT2, 30 OUT2, 31 VPWR, 32 CCP
text: DEV

## MLX90640
designator DDA?
32x24 IR array; Manufacter: Texas Instruments; Name: MLX90640
footprint MLX90640 (32x24 IR array)
pins: 1 SDA, 2 VDD, 3 GND, 4 SCL
text: *STU

## MTi-3-T
designator DD?
IMU датчик; Manufacturer_Name: Xsens; Datasheet Link: https://componentsearchengine.com/Datasheets/1/MTi-3-T.pdf; Height: 12.6mm; Mouser Part Number: 512-MTI-3T; Mouser Price/Stock: https://www.mouser.com/Search/Refine.aspx?Keyword=512-MTI-3T; Manufacturer_Part_Number: MTi-3-T; Name: MTi-3-T
footprint MTi3T
pins: 1 AUX_SCK/DNC, 2 DNC, 3 DNC, 4 GND, 5 VDDA, 6 NRST, 7 VDDIO, 8 GND, 9 SPI_NCS, 10 SPI_MOSI/ADD2, 11 SPI_MISO/ADD1, 12 SPI_SCK/ADD0, 13 GND, 14 PSEL0, 15 PSEL1, 16 SYNC_IN, 17 RESERVED, 18 AUX_RX/DNC, 19 AUX_TX/DNC, 20 SYNC_PPS/DNC, 21 DE/RTS, 22 DRDY/NRE/CTS, 23 UART_RX/I2C_SDA, 24 UART_TX/I2C_SCL, 25 GND, 26 AUX_NCS/DNC, 27 AUX_MOSI/DNC, 28 AUX_MISO/DNC
text: IMU

## NCP380HSNAJAAT1G
designator DA?
Ограничитель тока
footprint TSOP-6 (TSOP, 6-Leads, Body 3,1x1,7mm (max), Pitch 0,95mm, IPC Medium Density)
pins: 1 VIN, 2 GND, 3 EN, 4 ~{FLAG}, 5 ILIM, 6 Vo

## OLED-дисплей
designator X?, comment PLD 2.54X4
Разъем - 4 конт. вилка; Contact_1: 3.3B; Contact_2: SWCLK; Contact_3: SGND; Contact_4: SWDIO; Name: PLD 2.54X4
footprint 0.91inch OLED Module (OLED-дисплей)
pins: 1, 2, 3, 4
text: Цепь

## PTH08080W
designator DD?
DC/DC, 2.5А; Name: PTH08080W
footprint PTN7860
footprint PTH08080W
pins: 1 Vi, 2 GND, 3 Vo, 4 VoADJ, 5 ~{INHIBIT}
text: STU

## SN65HVD233D
designator DD?
Приемопередатчик CAN; Name: SN65HVD233D
footprint SOIC8
pins: 1 D, 2 GND, 3 Vcc, 4 R, 5 LBK, 6 CANL, 7 CANH, 8 Rs
text: RTX

## SRP1038A_150M
designator *  value 15мк  Name: SPR1038A_150M  (hidden comment: *)
footprint SPR1038A-150M
pins: 1, 2

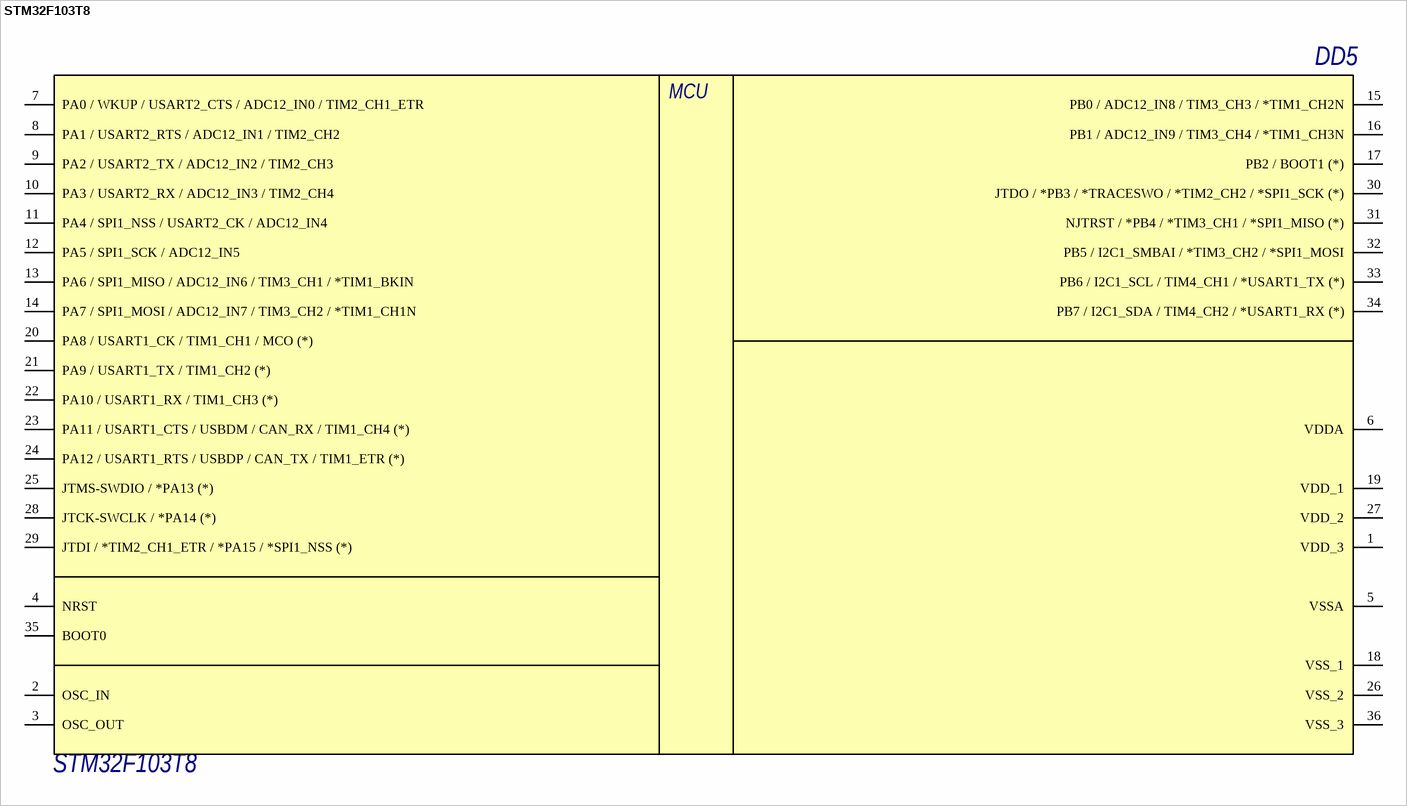
[diagram p8: symbol STM32F103T8]

## STM32F103T8
designator DD5
Микроконтроллер; Name: STM32F103T8
footprint VFQFPN36
pins: 1 VDD_3, 2 OSC_IN, 3 OSC_OUT, 4 NRST, 5 VSSA, 6 VDDA, 7 PA0 / WKUP / USART2_CTS / ADC12_IN0 / TIM2_CH1_ETR, 8 PA1 / USART2_RTS / ADC12_IN1 / TIM2_CH2, 9 PA2 / USART2_TX / ADC12_IN2 / TIM2_CH3, 10 PA3 / USART2_RX / ADC12_IN3 / TIM2_CH4, 11 PA4 / SPI1_NSS / USART2_CK / ADC12_IN4, 12 PA5 / SPI1_SCK / ADC12_IN5, 13 PA6 / SPI1_MISO / ADC12_IN6 / TIM3_CH1 / *TIM1_BKIN, 14 PA7 / SPI1_MOSI / ADC12_IN7 / TIM3_CH2 / *TIM1_CH1N, 15 PB0 / ADC12_IN8 / TIM3_CH3 / *TIM1_CH2N, 16 PB1 / ADC12_IN9 / TIM3_CH4 / *TIM1_CH3N, 17 PB2 / BOOT1 (*), 18 VSS_1, 19 VDD_1, 20 PA8 / USART1_CK / TIM1_CH1 / MCO (*), 21 PA9 / USART1_TX / TIM1_CH2 (*), 22 PA10 / USART1_RX / TIM1_CH3 (*), 23 PA11 / USART1_CTS / USBDM / CAN_RX / TIM1_CH4 (*), 24 PA12 / USART1_RTS / USBDP / CAN_TX / TIM1_ETR (*), 25 JTMS-SWDIO / *PA13 (*), 26 VSS_2, 27 VDD_2, 28 JTCK-SWCLK / *PA14 (*), 29 JTDI / *TIM2_CH1_ETR / *PA15 / *SPI1_NSS (*), 30 JTDO / *PB3 / *TRACESWO / *TIM2_CH2 / *SPI1_SCK (*), 31 NJTRST / *PB4 / *TIM3_CH1 / *SPI1_MISO (*), 32 PB5 / I2C1_SMBAI / *TIM3_CH2 / *SPI1_MOSI, 33 PB6 / I2C1_SCL / TIM4_CH1 / *USART1_TX (*), 34 PB7 / I2C1_SDA / TIM4_CH2 / *USART1_RX (*), 35 BOOT0, 36 VSS_3
text: MCU

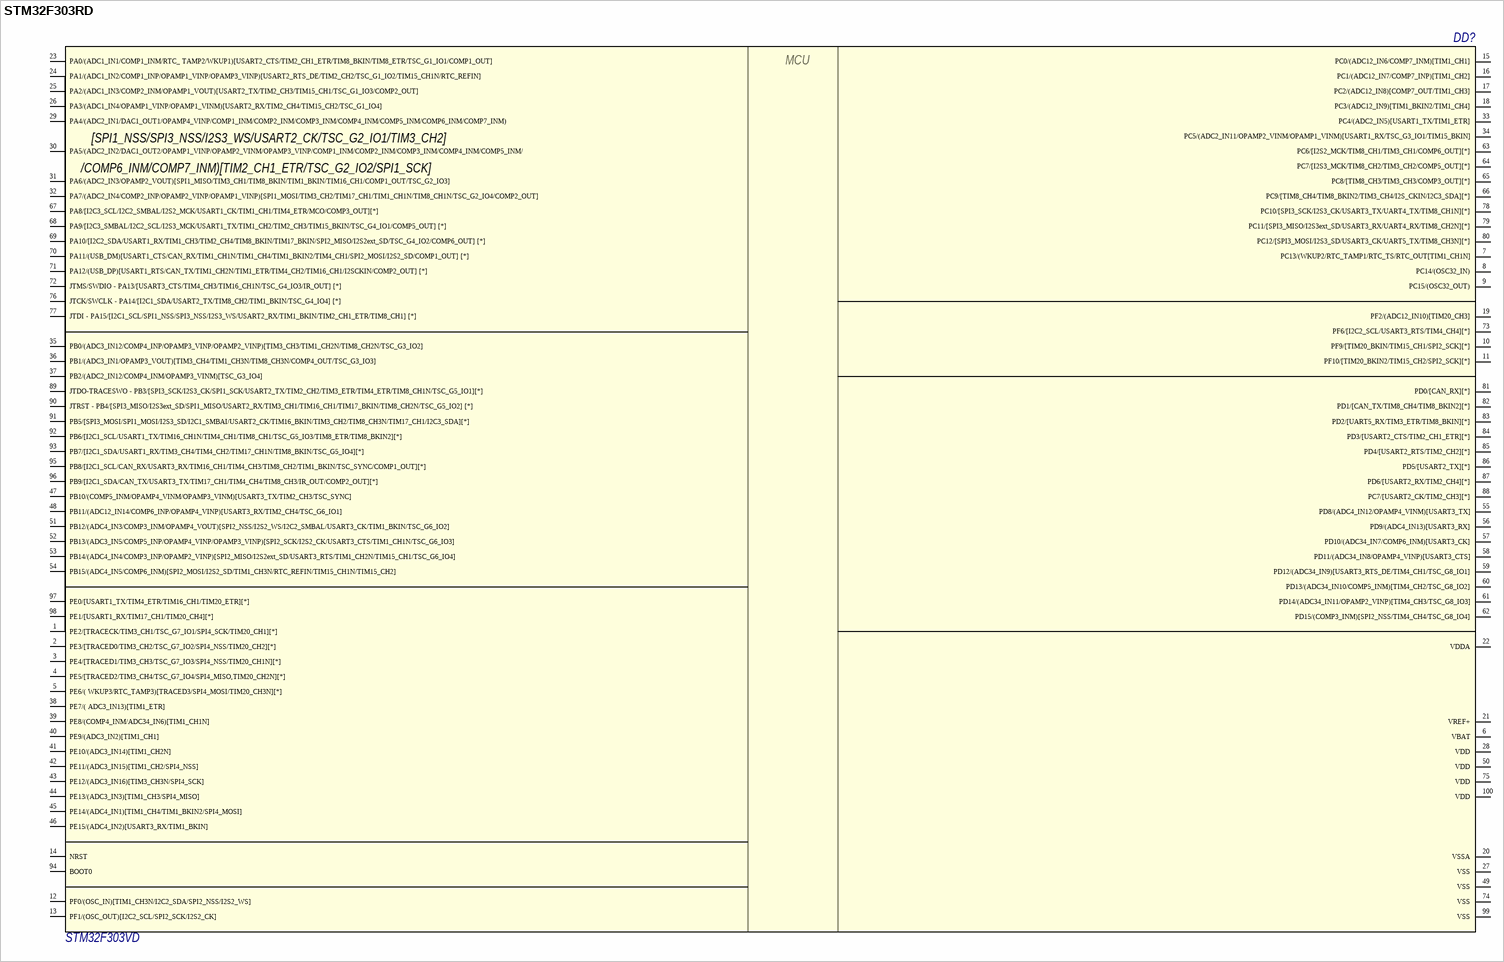
[diagram p9: symbol STM32F303RD]

## STM32F303RD
designator DD?, comment STM32F303VD
Микроконтроллер; Name: STM32F303VD
footprint LQFP100
pins: 1 PE2/[TRACECK/TIM3_CH1/TSC_G7_IO1/SPI4_SCK/TIM20_CH1][*], 2 PE3/[TRACED0/TIM3_CH2/TSC_G7_IO2/SPI4_NSS/TIM20_CH2][*], 3 PE4/[TRACED1/TIM3_CH3/TSC_G7_IO3/SPI4_NSS/TIM20_CH1N][*], 4 PE5/[TRACED2/TIM3_CH4/TSC_G7_IO4/SPI4_MISO,TIM20_CH2N][*], 5 PE6/( WKUP3/RTC_TAMP3)[TRACED3/SPI4_MOSI/TIM20_CH3N][*], 6 VBAT, 7 PC13/(WKUP2/RTC_TAMP1/RTC_TS/RTC_OUT[TIM1_CH1N], 8 PC14/(OSC32_IN), 9 PC15/(OSC32_OUT), 10 PF9/[TIM20_BKIN/TIM15_CH1/SPI2_SCK][*], 11 PF10/[TIM20_BKIN2/TIM15_CH2/SPI2_SCK][*], 12 PF0/(OSC_IN)[TIM1_CH3N/I2C2_SDA/SPI2_NSS/I2S2_WS], 13 PF1/(OSC_OUT)[I2C2_SCL/SPI2_SCK/I2S2_CK], 14 NRST, 15 PC0/(ADC12_IN6/COMP7_INM)[TIM1_CH1], 16 PC1/(ADC12_IN7/COMP7_INP)[TIM1_CH2], 17 PC2/(ADC12_IN8)[COMP7_OUT/TIM1_CH3], 18 PC3/(ADC12_IN9)[TIM1_BKIN2/TIM1_CH4], 19 PF2/(ADC12_IN10)[TIM20_CH3], 20 VSSA, 21 VREF+, 22 VDDA, 23 PA0/(ADC1_IN1/COMP1_INM/RTC_ TAMP2/WKUP1)[USART2_CTS/TIM2_CH1_ETR/TIM8_BKIN/TIM8_ETR/TSC_G1_IO1/COMP1_OUT], 24 PA1/(ADC1_IN2/COMP1_INP/OPAMP1_VINP/OPAMP3_VINP)[USART2_RTS_DE/TIM2_CH2/TSC_G1_IO2/TIM15_CH1N/RTC_REFIN], 25 PA2/(ADC1_IN3/COMP2_INM/OPAMP1_VOUT)[USART2_TX/TIM2_CH3/TIM15_CH1/TSC_G1_IO3/COMP2_OUT], 26 PA3/(ADC1_IN4/OPAMP1_VINP/OPAMP1_VINM)[USART2_RX/TIM2_CH4/TIM15_CH2/TSC_G1_IO4], 27 VSS, 28 VDD, 29 PA4/(ADC2_IN1/DAC1_OUT1/OPAMP4_VINP/COMP1_INM/COMP2_INM/COMP3_INM/COMP4_INM/COMP5_INM/COMP6_INM/COMP7_INM), 30 PA5/(ADC2_IN2/DAC1_OUT2/OPAMP1_VINP/OPAMP2_VINM/OPAMP3_VINP/COMP1_INM/COMP2_INM/COMP3_INM/COMP4_INM/COMP5_INM/, 31 PA6/(ADC2_IN3/OPAMP2_VOUT)[SPI1_MISO/TIM3_CH1/TIM8_BKIN/TIM1_BKIN/TIM16_CH1/COMP1_OUT/TSC_G2_IO3], 32 PA7/(ADC2_IN4/COMP2_INP/OPAMP2_VINP/OPAMP1_VINP)[SPI1_MOSI/TIM3_CH2/TIM17_CH1/TIM1_CH1N/TIM8_CH1N/TSC_G2_IO4/COMP2_OUT], 33 PC4/(ADC2_IN5)[USART1_TX/TIM1_ETR], 34 PC5/(ADC2_IN11/OPAMP2_VINM/OPAMP1_VINM)[USART1_RX/TSC_G3_IO1/TIM15_BKIN], 35 PB0/(ADC3_IN12/COMP4_INP/OPAMP3_VINP/OPAMP2_VINP)[TIM3_CH3/TIM1_CH2N/TIM8_CH2N/TSC_G3_IO2], 36 PB1/(ADC3_IN1/OPAMP3_VOUT)[TIM3_CH4/TIM1_CH3N/TIM8_CH3N/COMP4_OUT/TSC_G3_IO3], 37 PB2/(ADC2_IN12/COMP4_INM/OPAMP3_VINM)[TSC_G3_IO4], 38 PE7/( ADC3_IN13)[TIM1_ETR], 39 PE8/(COMP4_INM/ADC34_IN6)[TIM1_CH1N], 40 PE9/(ADC3_IN2)[TIM1_CH1], 41 PE10/(ADC3_IN14)[TIM1_CH2N], 42 PE11/(ADC3_IN15)[TIM1_CH2/SPI4_NSS], 43 PE12/(ADC3_IN16)[TIM3_CH3N/SPI4_SCK], 44 PE13/(ADC3_IN3)[TIM1_CH3/SPI4_MISO], 45 PE14/(ADC4_IN1)[TIM1_CH4/TIM1_BKIN2/SPI4_MOSI], 46 PE15/(ADC4_IN2)[USART3_RX/TIM1_BKIN], 47 PB10/(COMP5_INM/OPAMP4_VINM/OPAMP3_VINM)[USART3_TX/TIM2_CH3/TSC_SYNC], 48 PB11/(ADC12_IN14/COMP6_INP/OPAMP4_VINP)[USART3_RX/TIM2_CH4/TSC_G6_IO1], 49 VSS, 50 VDD, 51 PB12/(ADC4_IN3/COMP3_INM/OPAMP4_VOUT)[SPI2_NSS/I2S2_WS/I2C2_SMBAL/USART3_CK/TIM1_BKIN/TSC_G6_IO2], 52 PB13/(ADC3_IN5/COMP5_INP/OPAMP4_VINP/OPAMP3_VINP)[SPI2_SCK/I2S2_CK/USART3_CTS/TIM1_CH1N/TSC_G6_IO3], 53 PB14/(ADC4_IN4/COMP3_INP/OPAMP2_VINP)[SPI2_MISO/I2S2ext_SD/USART3_RTS/TIM1_CH2N/TIM15_CH1/TSC_G6_IO4], 54 PB15/(ADC4_IN5/COMP6_INM)[SPI2_MOSI/I2S2_SD/TIM1_CH3N/RTC_REFIN/TIM15_CH1N/TIM15_CH2], 55 PD8/(ADC4_IN12/OPAMP4_VINM)[USART3_TX], 56 PD9/(ADC4_IN13)[USART3_RX], 57 PD10/(ADC34_IN7/COMP6_INM)[USART3_CK], 58 PD11/(ADC34_IN8/OPAMP4_VINP)[USART3_CTS], 59 PD12/(ADC34_IN9)[USART3_RTS_DE/TIM4_CH1/TSC_G8_IO1], 60 PD13/(ADC34_IN10/COMP5_INM)[TIM4_CH2/TSC_G8_IO2], 61 PD14/(ADC34_IN11/OPAMP2_VINP)[TIM4_CH3/TSC_G8_IO3], 62 PD15/(COMP3_INM)[SPI2_NSS/TIM4_CH4/TSC_G8_IO4], 63 PC6/[I2S2_MCK/TIM8_CH1/TIM3_CH1/COMP6_OUT][*], 64 PC7/[I2S3_MCK/TIM8_CH2/TIM3_CH2/COMP5_OUT][*], 65 PC8/[TIM8_CH3/TIM3_CH3/COMP3_OUT][*], 66 PC9/[TIM8_CH4/TIM8_BKIN2/TIM3_CH4/I2S_CKIN/I2C3_SDA][*], 67 PA8/[I2C3_SCL/I2C2_SMBAL/I2S2_MCK/USART1_CK/TIM1_CH1/TIM4_ETR/MCO/COMP3_OUT][*], 68 PA9/[I2C3_SMBAL/I2C2_SCL/I2S3_MCK/USART1_TX/TIM1_CH2/TIM2_CH3/TIM15_BKIN/TSC_G4_IO1/COMP5_OUT] [*], 69 PA10/[I2C2_SDA/USART1_RX/TIM1_CH3/TIM2_CH4/TIM8_BKIN/TIM17_BKIN/SPI2_MISO/I2S2ext_SD/TSC_G4_IO2/COMP6_OUT] [*], 70 PA11/(USB_DM)[USART1_CTS/CAN_RX/TIM1_CH1N/TIM1_CH4/TIM1_BKIN2/TIM4_CH1/SPI2_MOSI/I2S2_SD/COMP1_OUT] [*], 71 PA12/(USB_DP)[USART1_RTS/CAN_TX/TIM1_CH2N/TIM1_ETR/TIM4_CH2/TIM16_CH1/I2SCKIN/COMP2_OUT] [*], 72 JTMS/SWDIO - PA13/[USART3_CTS/TIM4_CH3/TIM16_CH1N/TSC_G4_IO3/IR_OUT] [*], 73 PF6/[I2C2_SCL/USART3_RTS/TIM4_CH4][*], 74 VSS, 75 VDD, 76 JTCK/SWCLK - PA14/[I2C1_SDA/USART2_TX/TIM8_CH2/TIM1_BKIN/TSC_G4_IO4] [*], 77 JTDI - PA15/[I2C1_SCL/SPI1_NSS/SPI3_NSS/I2S3_WS/USART2_RX/TIM1_BKIN/TIM2_CH1_ETR/TIM8_CH1] [*], 78 PC10/[SPI3_SCK/I2S3_CK/USART3_TX/UART4_TX/TIM8_CH1N][*], 79 PC11/[SPI3_MISO/I2S3ext_SD/USART3_RX/UART4_RX/TIM8_CH2N][*], 80 PC12/[SPI3_MOSI/I2S3_SD/USART3_CK/UART5_TX/TIM8_CH3N][*], 81 PD0/[CAN_RX][*], 82 PD1/[CAN_TX/TIM8_CH4/TIM8_BKIN2][*], 83 PD2/[UART5_RX/TIM3_ETR/TIM8_BKIN][*], 84 PD3/[USART2_CTS/TIM2_CH1_ETR][*], 85 PD4/[USART2_RTS/TIM2_CH2][*], 86 PD5/[USART2_TX][*], 87 PD6/[USART2_RX/TIM2_CH4][*], 88 PC7/[USART2_CK/TIM2_CH3][*], 89 JTDO-TRACESWO - PB3/[SPI3_SCK/I2S3_CK/SPI1_SCK/USART2_TX/TIM2_CH2/TIM3_ETR/TIM4_ETR/TIM8_CH1N/TSC_G5_IO1][*], 90 JTRST - PB4/[SPI3_MISO/I2S3ext_SD/SPI1_MISO/USART2_RX/TIM3_CH1/TIM16_CH1/TIM17_BKIN/TIM8_CH2N/TSC_G5_IO2] [*], 91 PB5/[SPI3_MOSI/SPI1_MOSI/I2S3_SD/I2C1_SMBAI/USART2_CK/TIM16_BKIN/TIM3_CH2/TIM8_CH3N/TIM17_CH1/I2C3_SDA][*], 92 PB6/[I2C1_SCL/USART1_TX/TIM16_CH1N/TIM4_CH1/TIM8_CH1/TSC_G5_IO3/TIM8_ETR/TIM8_BKIN2][*], 93 PB7/[I2C1_SDA/USART1_RX/TIM3_CH4/TIM4_CH2/TIM17_CH1N/TIM8_BKIN/TSC_G5_IO4][*], 94 BOOT0, 95 PB8/[I2C1_SCL/CAN_RX/USART3_RX/TIM16_CH1/TIM4_CH3/TIM8_CH2/TIM1_BKIN/TSC_SYNC/COMP1_OUT][*], 96 PB9/[I2C1_SDA/CAN_TX/USART3_TX/TIM17_CH1/TIM4_CH4/TIM8_CH3/IR_OUT/COMP2_OUT][*], 97 PE0/[USART1_TX/TIM4_ETR/TIM16_CH1/TIM20_ETR][*], 98 PE1/[USART1_RX/TIM17_CH1/TIM20_CH4][*], 99 VSS, 100 VDD
text: MCU; [SPI1_NSS/SPI3_NSS/I2S3_WS/USART2_CK/TSC_G2_IO1/TIM3_CH2]; /COMP6_INM/COMP7_INM)[TIM2_CH1_ETR/TSC_G2_IO2/SPI1_SCK]

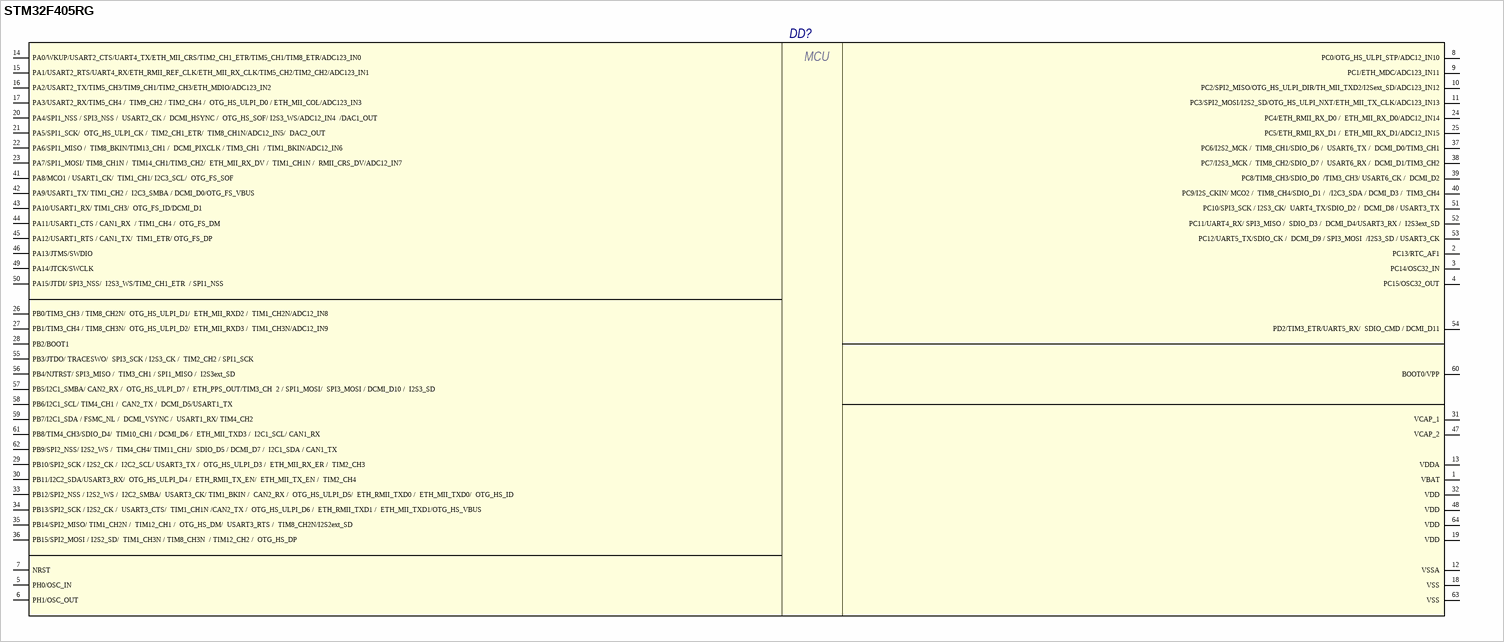
[diagram p10: symbol STM32F405RG]

## STM32F405RG
designator DD?
Микроконтроллер Cortex-M4; Name: STM32F405RG
footprint LQFP64_H (64-Pin Low Profile Quad Pack 0.5 mm Pitch, IPC High Density)
pins: 1 VBAT, 2 PC13/RTC_AF1, 3 PC14/OSC32_IN, 4 PC15/OSC32_OUT, 5 PH0/OSC_IN, 6 PH1/OSC_OUT, 7 NRST, 8 PC0/OTG_HS_ULPI_STP/ADC12_IN10, 9 PC1/ETH_MDC/ADC123_IN11, 10 PC2/SPI2_MISO/OTG_HS_ULPI_DIR/TH_MII_TXD2/I2Sext_SD/ADC123_IN12, 11 PC3/SPI2_MOSI/I2S2_SD/OTG_HS_ULPI_NXT/ETH_MII_TX_CLK/ADC123_IN13, 12 VSSA, 13 VDDA, 14 PA0/WKUP/USART2_CTS/UART4_TX/ETH_MII_CRS/TIM2_CH1_ETR/TIM5_CH1/TIM8_ETR/ADC123_IN0, 15 PA1/USART2_RTS/UART4_RX/ETH_RMII_REF_CLK/ETH_MII_RX_CLK/TIM5_CH2/TIM2_CH2/ADC123_IN1, 16 PA2/USART2_TX/TIM5_CH3/TIM9_CH1/TIM2_CH3/ETH_MDIO/ADC123_IN2, 17 PA3/USART2_RX/TIM5_CH4 /  TIM9_CH2 / TIM2_CH4 /  OTG_HS_ULPI_D0 / ETH_MII_COL/ADC123_IN3, 18 VSS, 19 VDD, 20 PA4/SPI1_NSS / SPI3_NSS /  USART2_CK /  DCMI_HSYNC /  OTG_HS_SOF/ I2S3_WS/ADC12_IN4  /DAC1_OUT, 21 PA5/SPI1_SCK/  OTG_HS_ULPI_CK /  TIM2_CH1_ETR/  TIM8_CH1N/ADC12_IN5/  DAC2_OUT, 22 PA6/SPI1_MISO /  TIM8_BKIN/TIM13_CH1 /  DCMI_PIXCLK / TIM3_CH1  / TIM1_BKIN/ADC12_IN6, 23 PA7/SPI1_MOSI/ TIM8_CH1N /  TIM14_CH1/TIM3_CH2/  ETH_MII_RX_DV /  TIM1_CH1N /  RMII_CRS_DV/ADC12_IN7, 24 PC4/ETH_RMII_RX_D0 /  ETH_MII_RX_D0/ADC12_IN14, 25 PC5/ETH_RMII_RX_D1 /  ETH_MII_RX_D1/ADC12_IN15, 26 PB0/TIM3_CH3 / TIM8_CH2N/  OTG_HS_ULPI_D1/  ETH_MII_RXD2 /  TIM1_CH2N/ADC12_IN8, 27 PB1/TIM3_CH4 / TIM8_CH3N/  OTG_HS_ULPI_D2/  ETH_MII_RXD3 /  TIM1_CH3N/ADC12_IN9, 28 PB2/BOOT1, 29 PB10/SPI2_SCK / I2S2_CK /  I2C2_SCL/ USART3_TX /  OTG_HS_ULPI_D3 /  ETH_MII_RX_ER /  TIM2_CH3, 30 PB11/I2C2_SDA/USART3_RX/  OTG_HS_ULPI_D4 /  ETH_RMII_TX_EN/  ETH_MII_TX_EN /  TIM2_CH4, 31 VCAP_1, 32 VDD, 33 PB12/SPI2_NSS / I2S2_WS /  I2C2_SMBA/  USART3_CK/ TIM1_BKIN /  CAN2_RX /  OTG_HS_ULPI_D5/  ETH_RMII_TXD0 /  ETH_MII_TXD0/  OTG_HS_ID, 34 PB13/SPI2_SCK / I2S2_CK /  USART3_CTS/  TIM1_CH1N /CAN2_TX /  OTG_HS_ULPI_D6 /  ETH_RMII_TXD1 /  ETH_MII_TXD1/OTG_HS_VBUS, 35 PB14/SPI2_MISO/ TIM1_CH2N /  TIM12_CH1 /  OTG_HS_DM/  USART3_RTS /  TIM8_CH2N/I2S2ext_SD, 36 PB15/SPI2_MOSI / I2S2_SD/  TIM1_CH3N / TIM8_CH3N  / TIM12_CH2 /  OTG_HS_DP, 37 PC6/I2S2_MCK /  TIM8_CH1/SDIO_D6 /  USART6_TX /  DCMI_D0/TIM3_CH1, 38 PC7/I2S3_MCK /  TIM8_CH2/SDIO_D7 /  USART6_RX /  DCMI_D1/TIM3_CH2, 39 PC8/TIM8_CH3/SDIO_D0  /TIM3_CH3/ USART6_CK /  DCMI_D2, 40 PC9/I2S_CKIN/ MCO2 /  TIM8_CH4/SDIO_D1 /  /I2C3_SDA / DCMI_D3 /  TIM3_CH4, 41 PA8/MCO1 / USART1_CK/  TIM1_CH1/ I2C3_SCL/  OTG_FS_SOF, 42 PA9/USART1_TX/ TIM1_CH2 /  I2C3_SMBA / DCMI_D0/OTG_FS_VBUS, 43 PA10/USART1_RX/ TIM1_CH3/  OTG_FS_ID/DCMI_D1, 44 PA11/USART1_CTS / CAN1_RX  / TIM1_CH4 /  OTG_FS_DM, 45 PA12/USART1_RTS / CAN1_TX/  TIM1_ETR/ OTG_FS_DP, 46 PA13/JTMS/SWDIO, 47 VCAP_2, 48 VDD, 49 PA14/JTCK/SWCLK, 50 PA15/JTDI/ SPI3_NSS/  I2S3_WS/TIM2_CH1_ETR  / SPI1_NSS, 51 PC10/SPI3_SCK / I2S3_CK/  UART4_TX/SDIO_D2 /  DCMI_D8 / USART3_TX, 52 PC11/UART4_RX/ SPI3_MISO /  SDIO_D3 /  DCMI_D4/USART3_RX /  I2S3ext_SD, 53 PC12/UART5_TX/SDIO_CK /  DCMI_D9 / SPI3_MOSI  /I2S3_SD / USART3_CK, 54 PD2/TIM3_ETR/UART5_RX/  SDIO_CMD / DCMI_D11, 55 PB3/JTDO/ TRACESWO/  SPI3_SCK / I2S3_CK /  TIM2_CH2 / SPI1_SCK, 56 PB4/NJTRST/ SPI3_MISO /  TIM3_CH1 / SPI1_MISO /  I2S3ext_SD, 57 PB5/I2C1_SMBA/ CAN2_RX /  OTG_HS_ULPI_D7 /  ETH_PPS_OUT/TIM3_CH  2 / SPI1_MOSI/  SPI3_MOSI / DCMI_D10 /  I2S3_SD, 58 PB6/I2C1_SCL/ TIM4_CH1 /  CAN2_TX /  DCMI_D5/USART1_TX, 59 PB7/I2C1_SDA / FSMC_NL /  DCMI_VSYNC /  USART1_RX/ TIM4_CH2, 60 BOOT0/VPP, 61 PB8/TIM4_CH3/SDIO_D4/  TIM10_CH1 / DCMI_D6 /  ETH_MII_TXD3 /  I2C1_SCL/ CAN1_RX, 62 PB9/SPI2_NSS/ I2S2_WS /  TIM4_CH4/ TIM11_CH1/  SDIO_D5 / DCMI_D7 /  I2C1_SDA / CAN1_TX, 63 VSS, 64 VDD
text: MCU

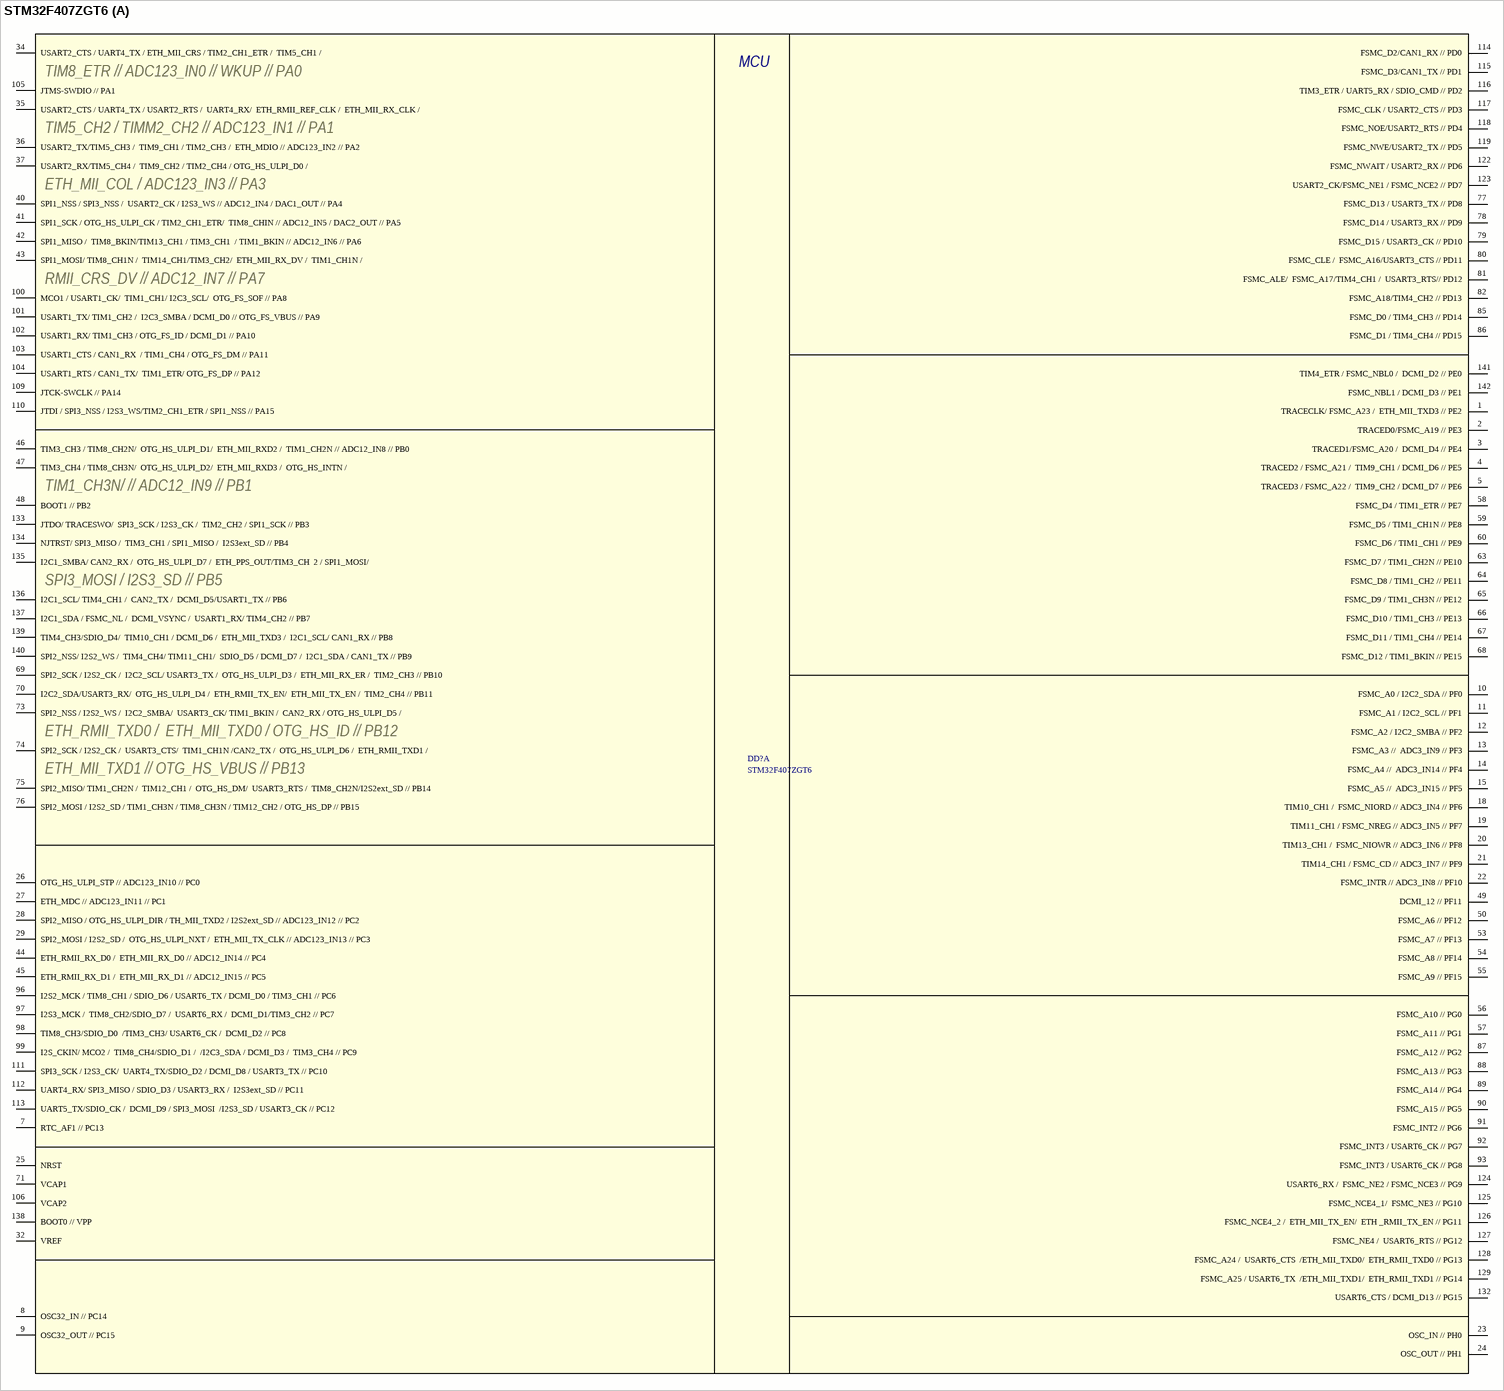
[diagram p11: symbol STM32F407ZGT6]

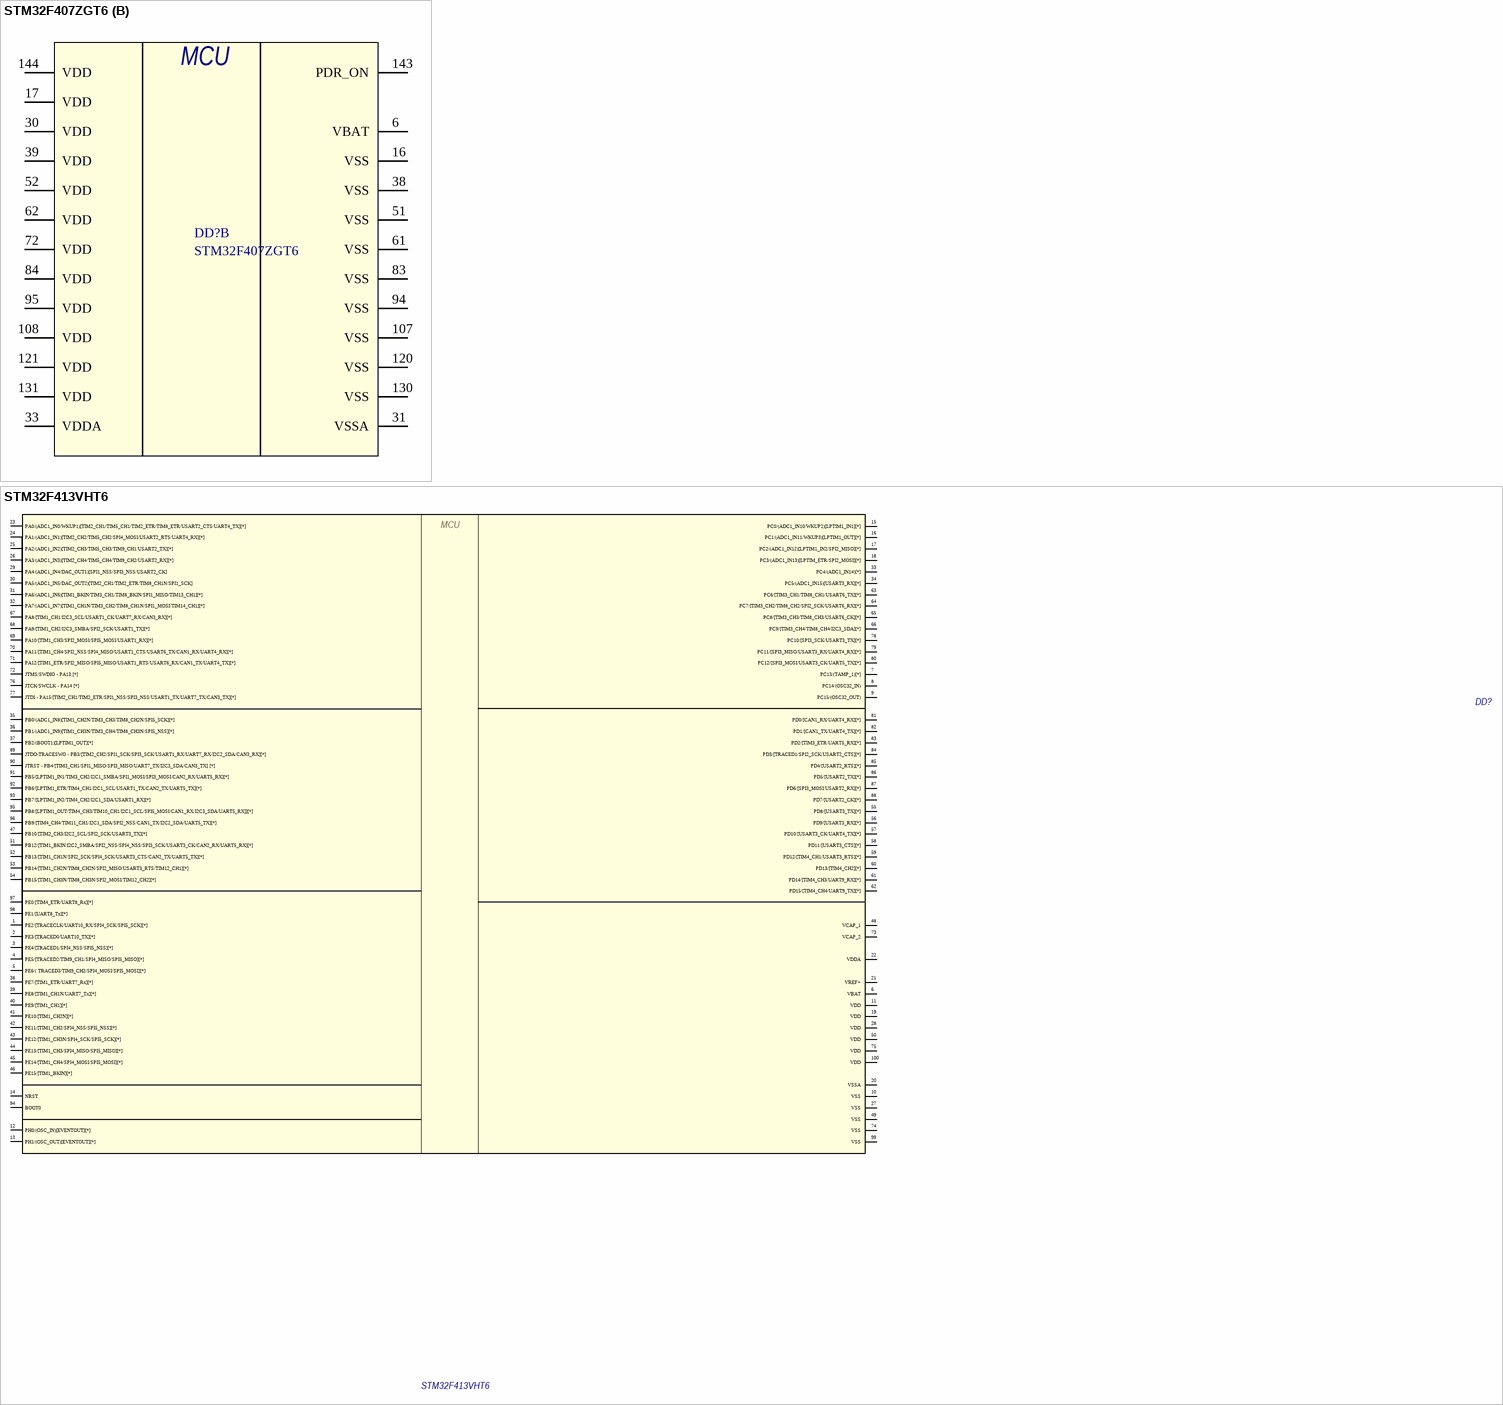
[diagram p12: symbols STM32F407ZGT6 to STM32F413VHT6]

## STM32F407ZGT6
designator DD?
Микроконтроллер 32-хразрядный; Manufacturer: STMicroelectronics; Name: STM32F407ZGT6; Package: LQFP144
footprint LQFP-144
part A pins: 1 TRACECLK/ FSMC_A23 /  ETH_MII_TXD3 // PE2, 2 TRACED0/FSMC_A19 // PE3, 3 TRACED1/FSMC_A20 /  DCMI_D4 // PE4, 4 TRACED2 / FSMC_A21 /  TIM9_CH1 / DCMI_D6 // PE5, 5 TRACED3 / FSMC_A22 /  TIM9_CH2 / DCMI_D7 // PE6, 7 RTC_AF1 // PC13, 8 OSC32_IN // PC14, 9 OSC32_OUT // PC15, 10 FSMC_A0 / I2C2_SDA // PF0, 11 FSMC_A1 / I2C2_SCL // PF1, 12 FSMC_A2 / I2C2_SMBA // PF2, 13 FSMC_A3 //  ADC3_IN9 // PF3, 14 FSMC_A4 //  ADC3_IN14 // PF4, 15 FSMC_A5 //  ADC3_IN15 // PF5, 18 TIM10_CH1 /  FSMC_NIORD // ADC3_IN4 // PF6, 19 TIM11_CH1 / FSMC_NREG // ADC3_IN5 // PF7, 20 TIM13_CH1 /  FSMC_NIOWR // ADC3_IN6 // PF8, 21 TIM14_CH1 / FSMC_CD // ADC3_IN7 // PF9, 22 FSMC_INTR // ADC3_IN8 // PF10, 23 OSC_IN // PH0, 24 OSC_OUT // PH1, 25 NRST, 26 OTG_HS_ULPI_STP // ADC123_IN10 // PC0, 27 ETH_MDC // ADC123_IN11 // PC1, 28 SPI2_MISO / OTG_HS_ULPI_DIR / TH_MII_TXD2 / I2S2ext_SD // ADC123_IN12 // PC2, 29 SPI2_MOSI / I2S2_SD /  OTG_HS_ULPI_NXT /  ETH_MII_TX_CLK // ADC123_IN13 // PC3, 32 VREF, 34 USART2_CTS / UART4_TX / ETH_MII_CRS / TIM2_CH1_ETR /  TIM5_CH1 /, 35 USART2_CTS / UART4_TX / USART2_RTS /  UART4_RX/  ETH_RMII_REF_CLK /  ETH_MII_RX_CLK / , 36 USART2_TX/TIM5_CH3 /  TIM9_CH1 / TIM2_CH3 /  ETH_MDIO // ADC123_IN2 // PA2, 37 USART2_RX/TIM5_CH4 /  TIM9_CH2 / TIM2_CH4 / OTG_HS_ULPI_D0 /, 40 SPI1_NSS / SPI3_NSS /  USART2_CK / I2S3_WS // ADC12_IN4 / DAC1_OUT // PA4, 41 SPI1_SCK / OTG_HS_ULPI_CK / TIM2_CH1_ETR/  TIM8_CHIN // ADC12_IN5 / DAC2_OUT // PA5, 42 SPI1_MISO /  TIM8_BKIN/TIM13_CH1 / TIM3_CH1  / TIM1_BKIN // ADC12_IN6 // PA6, 43 SPI1_MOSI/ TIM8_CH1N /  TIM14_CH1/TIM3_CH2/  ETH_MII_RX_DV /  TIM1_CH1N /, 44 ETH_RMII_RX_D0 /  ETH_MII_RX_D0 // ADC12_IN14 // PC4, 45 ETH_RMII_RX_D1 /  ETH_MII_RX_D1 // ADC12_IN15 // PC5, 46 TIM3_CH3 / TIM8_CH2N/  OTG_HS_ULPI_D1/  ETH_MII_RXD2 /  TIM1_CH2N // ADC12_IN8 // PB0, 47 TIM3_CH4 / TIM8_CH3N/  OTG_HS_ULPI_D2/  ETH_MII_RXD3 /  OTG_HS_INTN / , 48 BOOT1 // PB2, 49 DCMI_12 // PF11, 50 FSMC_A6 // PF12, 53  FSMC_A7 // PF13, 54  FSMC_A8 // PF14, 55  FSMC_A9 // PF15, 56 FSMC_A10 // PG0, 57 FSMC_A11 // PG1, 58  FSMC_D4 / TIM1_ETR // PE7, 59  FSMC_D5 / TIM1_CH1N // PE8, 60  FSMC_D6 / TIM1_CH1 // PE9, 63 FSMC_D7 / TIM1_CH2N // PE10, 64 FSMC_D8 / TIM1_CH2 // PE11, 65 FSMC_D9 / TIM1_CH3N // PE12, 66 FSMC_D10 / TIM1_CH3 // PE13, 67 FSMC_D11 / TIM1_CH4 // PE14, 68 FSMC_D12 / TIM1_BKIN // PE15, 69 SPI2_SCK / I2S2_CK /  I2C2_SCL/ USART3_TX /  OTG_HS_ULPI_D3 /  ETH_MII_RX_ER /  TIM2_CH3 // PB10, 70 I2C2_SDA/USART3_RX/  OTG_HS_ULPI_D4 /  ETH_RMII_TX_EN/  ETH_MII_TX_EN /  TIM2_CH4 // PB11, 71 VCAP1, 73 SPI2_NSS / I2S2_WS /  I2C2_SMBA/  USART3_CK/ TIM1_BKIN /  CAN2_RX / OTG_HS_ULPI_D5 / , 74 SPI2_SCK / I2S2_CK /  USART3_CTS/  TIM1_CH1N /CAN2_TX /  OTG_HS_ULPI_D6 /  ETH_RMII_TXD1 /, 75 SPI2_MISO/ TIM1_CH2N /  TIM12_CH1 /  OTG_HS_DM/  USART3_RTS /  TIM8_CH2N/I2S2ext_SD // PB14, 76 SPI2_MOSI / I2S2_SD / TIM1_CH3N / TIM8_CH3N / TIM12_CH2 / OTG_HS_DP // PB15, 77 FSMC_D13 / USART3_TX // PD8, 78 FSMC_D14 / USART3_RX // PD9, 79 FSMC_D15 / USART3_CK // PD10, 80 FSMC_CLE /  FSMC_A16/USART3_CTS // PD11, 81 FSMC_ALE/  FSMC_A17/TIM4_CH1 /  USART3_RTS// PD12, 82 FSMC_A18/TIM4_CH2 // PD13, 85 FSMC_D0 / TIM4_CH3 // PD14, 86 FSMC_D1 / TIM4_CH4 // PD15, 87 FSMC_A12 // PG2, 88 FSMC_A13 // PG3, 89 FSMC_A14 // PG4, 90 FSMC_A15 // PG5, 91 FSMC_INT2 // PG6, 92 FSMC_INT3 / USART6_CK // PG7, 93 FSMC_INT3 / USART6_CK // PG8, 96 I2S2_MCK / TIM8_CH1 / SDIO_D6 / USART6_TX / DCMI_D0 / TIM3_CH1 // PC6, 97 I2S3_MCK /  TIM8_CH2/SDIO_D7 /  USART6_RX /  DCMI_D1/TIM3_CH2 // PC7, 98 TIM8_CH3/SDIO_D0  /TIM3_CH3/ USART6_CK /  DCMI_D2 // PC8, 99 I2S_CKIN/ MCO2 /  TIM8_CH4/SDIO_D1 /  /I2C3_SDA / DCMI_D3 /  TIM3_CH4 // PC9, 100 MCO1 / USART1_CK/  TIM1_CH1/ I2C3_SCL/  OTG_FS_SOF // PA8, 101 USART1_TX/ TIM1_CH2 /  I2C3_SMBA / DCMI_D0 // OTG_FS_VBUS // PA9, 102 USART1_RX/ TIM1_CH3 / OTG_FS_ID / DCMI_D1 // PA10, 103 USART1_CTS / CAN1_RX  / TIM1_CH4 / OTG_FS_DM // PA11, 104 USART1_RTS / CAN1_TX/  TIM1_ETR/ OTG_FS_DP // PA12, 105 JTMS-SWDIO // PA1, 106 VCAP2, 109 JTCK-SWCLK // PA14, 110 JTDI / SPI3_NSS / I2S3_WS/TIM2_CH1_ETR / SPI1_NSS // PA15, 111 SPI3_SCK / I2S3_CK/  UART4_TX/SDIO_D2 / DCMI_D8 / USART3_TX // PC10, 112 UART4_RX/ SPI3_MISO / SDIO_D3 / USART3_RX /  I2S3ext_SD // PC11, 113 UART5_TX/SDIO_CK /  DCMI_D9 / SPI3_MOSI  /I2S3_SD / USART3_CK // PC12, 114 FSMC_D2/CAN1_RX // PD0, 115 FSMC_D3/CAN1_TX // PD1, 116 TIM3_ETR / UART5_RX / SDIO_CMD // PD2, 117 FSMC_CLK / USART2_CTS // PD3, 118 FSMC_NOE/USART2_RTS // PD4, 119 FSMC_NWE/USART2_TX // PD5, 122 FSMC_NWAIT / USART2_RX // PD6, 123 USART2_CK/FSMC_NE1 / FSMC_NCE2 // PD7, 124 USART6_RX /  FSMC_NE2 / FSMC_NCE3 // PG9, 125 FSMC_NCE4_1/  FSMC_NE3 // PG10, 126 FSMC_NCE4_2 /  ETH_MII_TX_EN/  ETH _RMII_TX_EN // PG11, 127 FSMC_NE4 /  USART6_RTS // PG12, 128 FSMC_A24 /  USART6_CTS  /ETH_MII_TXD0/  ETH_RMII_TXD0 // PG13, 129 FSMC_A25 / USART6_TX  /ETH_MII_TXD1/  ETH_RMII_TXD1 // PG14, 132 USART6_CTS / DCMI_D13 // PG15, 133 JTDO/ TRACESWO/  SPI3_SCK / I2S3_CK /  TIM2_CH2 / SPI1_SCK // PB3, 134 NJTRST/ SPI3_MISO /  TIM3_CH1 / SPI1_MISO /  I2S3ext_SD // PB4, 135 I2C1_SMBA/ CAN2_RX /  OTG_HS_ULPI_D7 /  ETH_PPS_OUT/TIM3_CH  2 / SPI1_MOSI/ , 136 I2C1_SCL/ TIM4_CH1 /  CAN2_TX /  DCMI_D5/USART1_TX // PB6, 137 I2C1_SDA / FSMC_NL /  DCMI_VSYNC /  USART1_RX/ TIM4_CH2 // PB7, 138 BOOT0 // VPP, 139 TIM4_CH3/SDIO_D4/  TIM10_CH1 / DCMI_D6 /  ETH_MII_TXD3 /  I2C1_SCL/ CAN1_RX // PB8, 140 SPI2_NSS/ I2S2_WS /  TIM4_CH4/ TIM11_CH1/  SDIO_D5 / DCMI_D7 /  I2C1_SDA / CAN1_TX // PB9, 141 TIM4_ETR / FSMC_NBL0 /  DCMI_D2 // PE0, 142 FSMC_NBL1 / DCMI_D3 // PE1
part B pins: 6 VBAT, 16 VSS, 17 VDD, 30 VDD, 31 VSSA, 33 VDDA, 38 VSS, 39 VDD, 51 VSS, 52 VDD, 61 VSS, 62 VDD, 72 VDD, 83 VSS, 84 VDD, 94 VSS, 95 VDD, 107 VSS, 108 VDD, 120 VSS, 121 VDD, 130 VSS, 131 VDD, 143 PDR_ON, 144 VDD
2 alternate drawings of the same symbol
part A text: MCU; TIM8_ETR // ADC123_IN0 // WKUP // PA0; TIM5_CH2 / TIMM2_CH2 // ADC123_IN1 // PA1; ETH_MII_COL / ADC123_IN3 // PA3; RMII_CRS_DV // ADC12_IN7 // PA7; TIM1_CH3N/ // ADC12_IN9 // PB1; SPI3_MOSI / I2S3_SD // PB5; ETH_RMII_TXD0 /  ETH_MII_TXD0 / OTG_HS_ID // PB12; ETH_MII_TXD1 // OTG_HS_VBUS // PB13
part B text: MCU

## STM32F413VHT6
designator DD?
Микроконтроллер; Name: STM32F413VHT6
footprint LQFP100_A
pins: 1 PE2/[TRACECLK/UART10_RX/SPI4_SCK/SPI5_SCK][*], 2 PE3/[TRACED0/UART10_TX][*], 3 PE4/[TRACED1/SPI4_NSS/SPI5_NSS][*], 4 PE5/[TRACED2/TIM9_CH1/SPI4_MISO/SPI5_MISO][*], 5 PE6/( TRACED3/TIM9_CH2/SPI4_MOSI/SPI5_MOSI][*], 6 VBAT, 7 PC13/(TAMP_1)[*], 8 PC14/(OSC32_IN), 9 PC15/(OSC32_OUT), 10 VSS, 11 VDD, 12 PH0/(OSC_IN)[EVENTOUT][*], 13 PH1/(OSC_OUT)[EVENTOUT][*], 14 NRST, 15 PC0/(ADC1_IN10/WKUP2)[LPTIM1_IN1][*], 16 PC1/(ADC1_IN11/WKUP3)[LPTIM1_OUT][*], 17 PC2/(ADC1_IN12)[LPTIM1_IN2/SPI2_MISO][*], 18 PC3/(ADC1_IN13)[LPTIM_ETR/SPI2_MOSI][*], 19 VDD, 20 VSSA, 21 VREF+, 22 VDDA, 23 PA0/(ADC1_IN0/WKUP1)[TIM2_CH1/TIM5_CH1/TIM2_ETR/TIM8_ETR/USART2_CTS/UART4_TX][*], 24 PA1/(ADC1_IN1)[TIM2_CH2/TIM5_CH2/SPI4_MOSI/USART2_RTS/UART4_RX][*], 25 PA2/(ADC1_IN2)[TIM2_CH3/TIM5_CH3/TIM9_CH1/USART2_TX][*], 26 PA3/(ADC1_IN3)[TIM2_CH4/TIM5_CH4/TIM9_CH2/USART2_RX][*], 27 VSS, 28 VDD, 29 PA4/(ADC1_IN4/DAC_OUT1)[SPI1_NSS/SPI3_NSS/USART2_CK], 30 PA5/(ADC1_IN5/DAC_OUT2)[TIM2_CH1/TIM2_ETR/TIM8_CH1N/SPI1_SCK], 31 PA6/(ADC1_IN6)[TIM1_BKIN/TIM3_CH1/TIM8_BKIN/SPI1_MISO/TIM13_CH1][*], 32 PA7/(ADC1_IN7)[TIM1_CH1N/TIM3_CH2/TIM8_CH1N/SPI1_MOSI/TIM14_CH1][*], 33 PC4/(ADC1_IN14)[*], 34 PC5/(ADC1_IN15)[USART3_RX][*], 35 PB0/(ADC1_IN8)[TIM1_CH2N/TIM3_CH3/TIM8_CH2N/SPI5_SCK][*], 36 PB1/(ADC1_IN9)[TIM1_CH3N/TIM3_CH4/TIM8_CH3N/SPI5_NSS][*], 37 PB2/(BOOT1)[LPTIM1_OUT][*], 38 PE7/[TIM1_ETR/UART7_Rx][*], 39 PE8/[TIM1_CH1N/UART7_Tx][*], 40 PE9/[TIM1_CH1][*], 41 PE10/[TIM1_CH2N][*], 42 PE11/[TIM1_CH2/SPI4_NSS/SPI5_NSS][*], 43 PE12/[TIM1_CH3N/SPI4_SCK/SPI5_SCK][*], 44 PE13/[TIM1_CH3/SPI4_MISO/SPI5_MISO][*], 45 PE14/[TIM1_CH4/SPI4_MOSI/SPI5_MOSI][*], 46 PE15/[TIM1_BKIN][*], 47 PB10/[TIM2_CH3/I2C2_SCL/SPI2_SCK/USART3_TX][*], 48 VCAP_1, 49 VSS, 50 VDD, 51 PB12/[TIM1_BKIN/I2C2_SMBA/SPI2_NSS/SPI4_NSS/SPI3_SCK/USART3_CK/CAN2_RX/UART5_RX][*], 52 PB13/[TIM1_CH1N/SPI2_SCK/SPI4_SCK/USART3_CTS/CAN2_TX/UART5_TX][*], 53 PB14/[TIM1_CH2N/TIM8_CH2N/SPI2_MISO/USART3_RTS/TIM12_CH1][*], 54 PB15/[TIM1_CH3N/TIM8_CH3N/SPI2_MOSI/TIM12_CH2][*], 55 PD8/[USART3_TX][*], 56 PD9/[USART3_RX][*], 57 PD10/[USART3_CK/UART4_TX][*], 58 PD11/[USART3_CTS][*], 59 PD12/[TIM4_CH1/USART3_RTS][*], 60 PD13/[TIM4_CH2][*], 61 PD14/[TIM4_CH3/UART9_RX][*], 62 PD15/[TIM4_CH4/UART9_TX][*], 63 PC6/[TIM3_CH1/TIM8_CH1/USART6_TX][*], 64 PC7/[TIM3_CH2/TIM8_CH2/SPI2_SCK/USART6_RX][*], 65 PC8/[TIM3_CH3/TIM8_CH3/USART6_CK][*], 66 PC9/[TIM3_CH4/TIM8_CH4/I2C3_SDA][*], 67 PA8/[TIM1_CH1/I2C3_SCL/USART1_CK/UART7_RX/CAN3_RX][*], 68 PA9/[TIM1_CH2/I2C3_SMBA/SPI2_SCK/USART1_TX][*], 69 PA10/[TIM1_CH3/SPI2_MOSI/SPI5_MOSI/USART1_RX][*], 70 PA11/[TIM1_CH4/SPI2_NSS/SPI4_MISO/USART1_CTS/USART6_TX/CAN1_RX/UART4_RX][*], 71 PA12/[TIM1_ETR/SPI2_MISO/SPI5_MISO/USART1_RTS/USART6_RX/CAN1_TX/UART4_TX][*], 72 JTMS/SWDIO - PA13 [*], 73 VCAP_2, 74 VSS, 75 VDD, 76 JTCK/SWCLK - PA14 [*], 77 JTDI - PA15/[TIM2_CH1/TIM2_ETR/SPI1_NSS/SPI3_NSS/USART1_TX/UART7_TX/CAN3_TX][*], 78 PC10/[SPI3_SCK/USART3_TX][*], 79 PC11/[SPI3_MISO/USART3_RX/UART4_RX][*], 80 PC12/[SPI3_MOSI/USART3_CK/UART5_TX][*], 81 PD0/[CAN1_RX/UART4_RX][*], 82 PD1/[CAN1_TX/UART4_TX][*], 83 PD2/[TIM3_ETR/UART5_RX][*], 84 PD3/[TRACED1/SPI2_SCK/USART2_CTS][*], 85 PD4/[USART2_RTS][*], 86 PD5/[USART2_TX][*], 87 PD6/[SPI3_MOSI/USART2_RX][*], 88 PD7/[USART2_CK][*], 89 JTDO-TRACESWO - PB3/[TIM2_CH2/SPI1_SCK/SPI3_SCK/USART1_RX/UART7_RX/I2C2_SDA/CAN3_RX][*], 90 JTRST - PB4/[TIM3_CH1/SPI1_MISO/SPI3_MISO/UART7_TX/I2C3_SDA/CAN3_TX] [*], 91 PB5/[LPTIM1_IN1/TIM3_CH2/I2C1_SMBA/SPI1_MOSI/SPI3_MOSI/CAN2_RX/UART5_RX][*], 92 PB6/[LPTIM1_ETR/TIM4_CH1/I2C1_SCL/USART1_TX/CAN2_TX/UART5_TX][*], 93 PB7/[LPTIM1_IN2/TIM4_CH2/I2C1_SDA/USART1_RX][*], 94 BOOT0, 95 PB8/[LPTIM1_OUT/TIM4_CH3/TIM10_CH1/I2C1_SCL/SPI5_MOSI/CAN1_RX/I2C3_SDA/UART5_RX]][*], 96 PB9/[TIM4_CH4/TIM11_CH1/I2C1_SDA/SPI2_NSS/CAN1_TX/I2C2_SDA/UART5_TX][*], 97 PE0/[TIM4_ETR/UART8_Rx][*], 98 PE1/[UART8_Tx][*], 99 VSS, 100 VDD
text: MCU

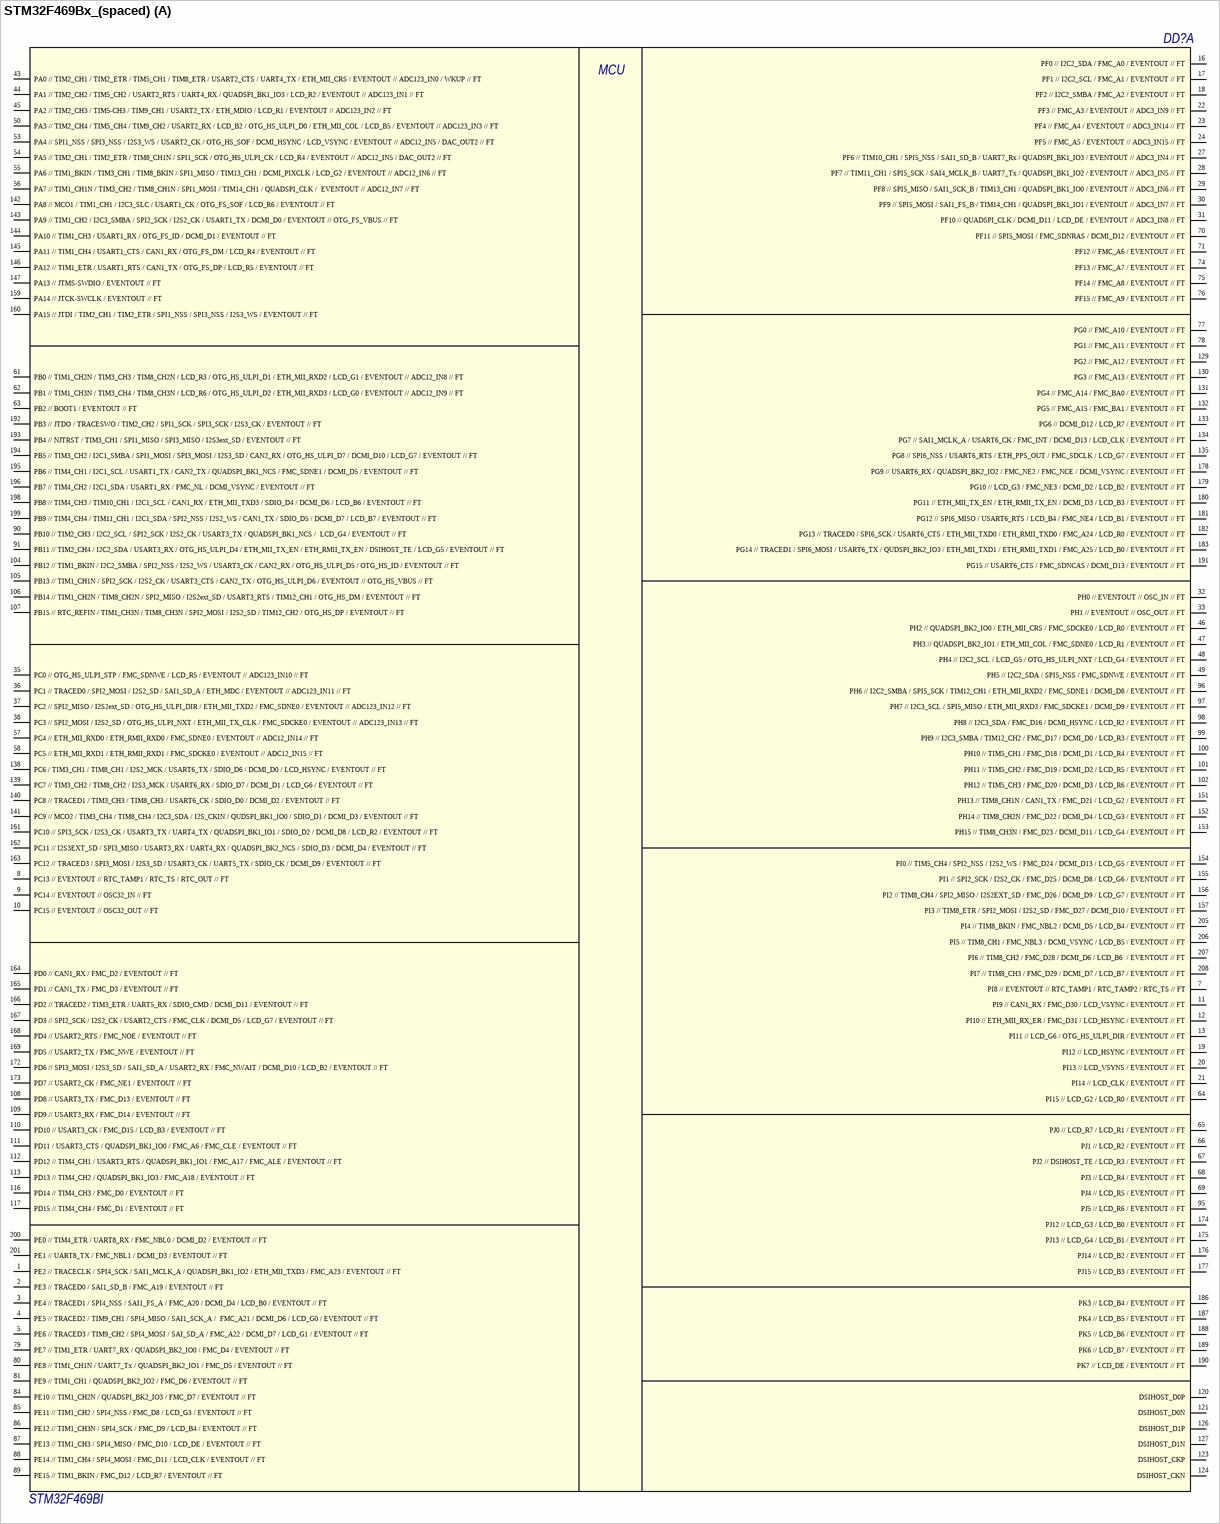
[diagram p13: symbol STM32F469Bx_(spaced)]

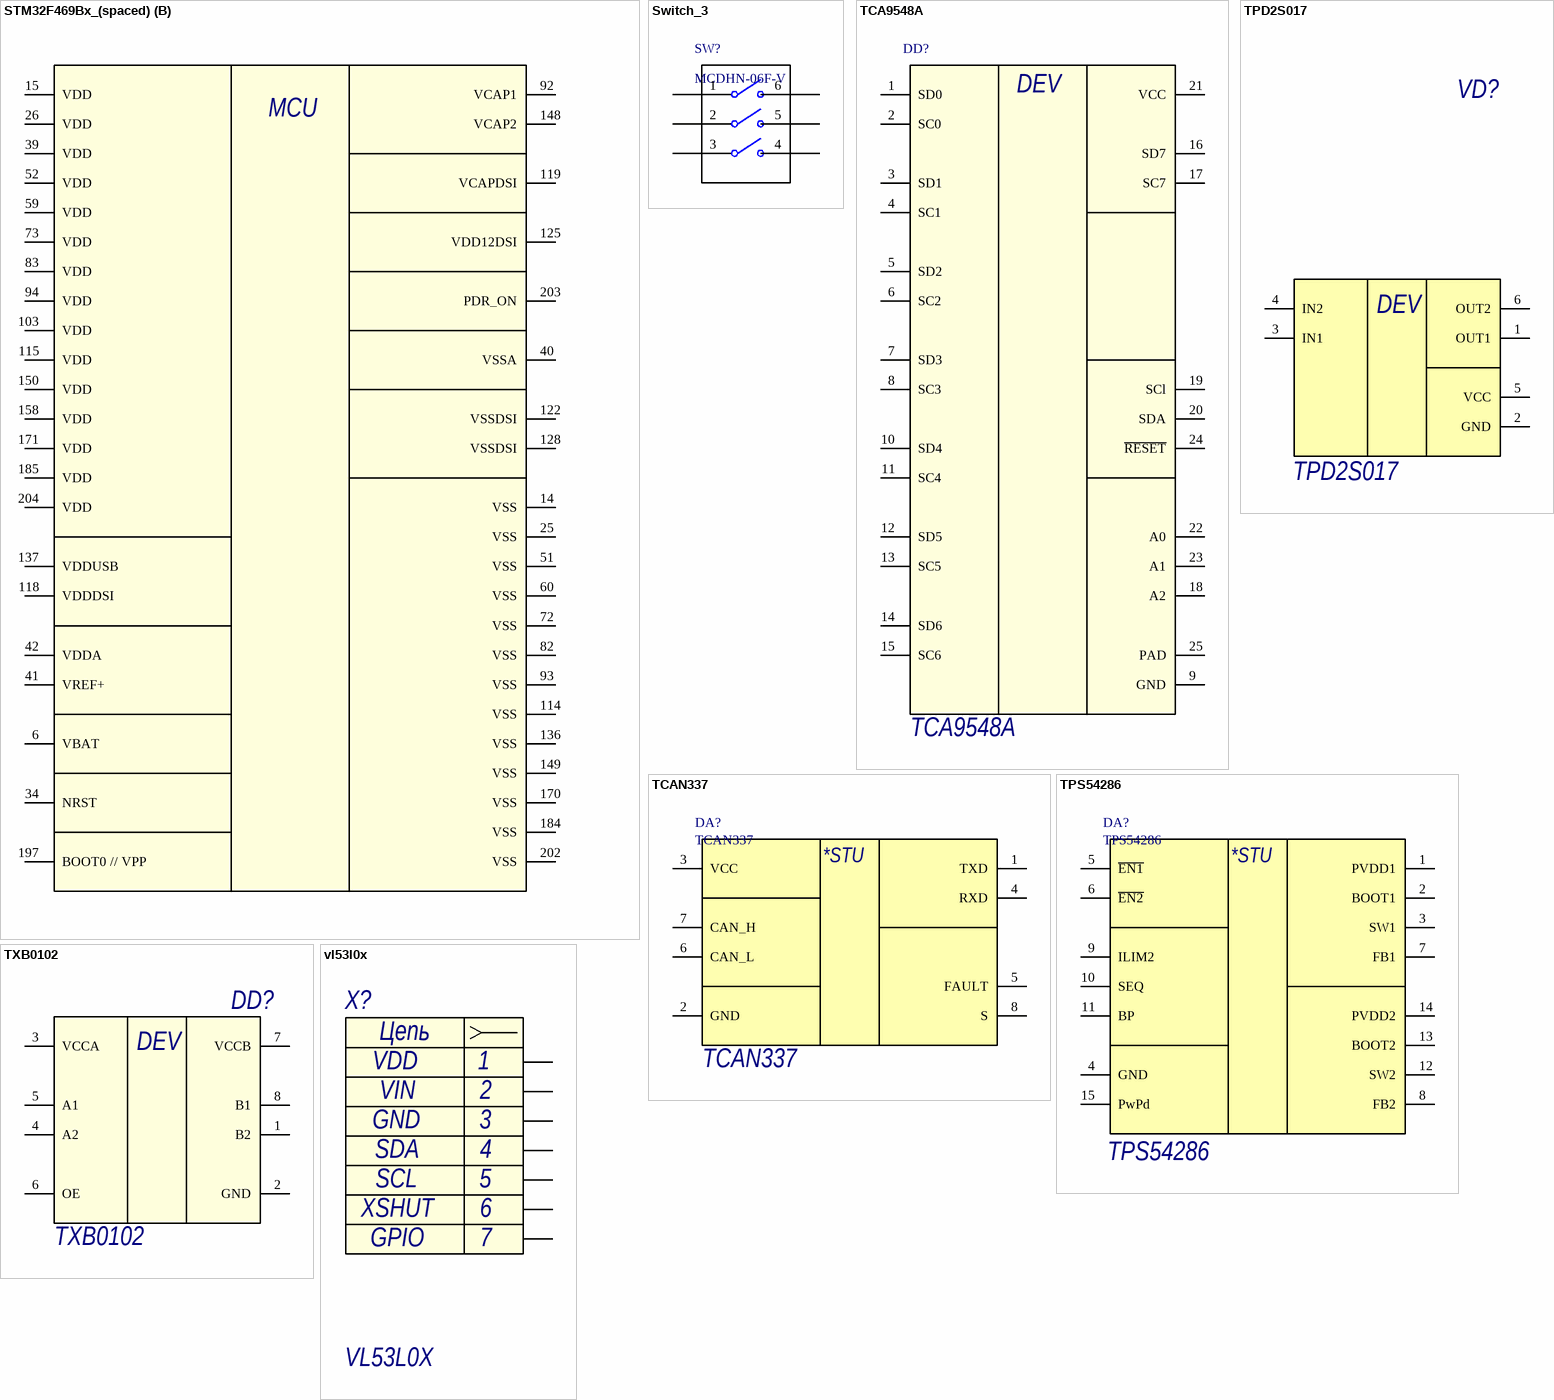
[diagram p14: symbols STM32F469Bx_(spaced) to vl53l0x]